# Altium integrated library Lattice FPGA MachXO2.IntLib: 444 symbols (part 29 of 39)
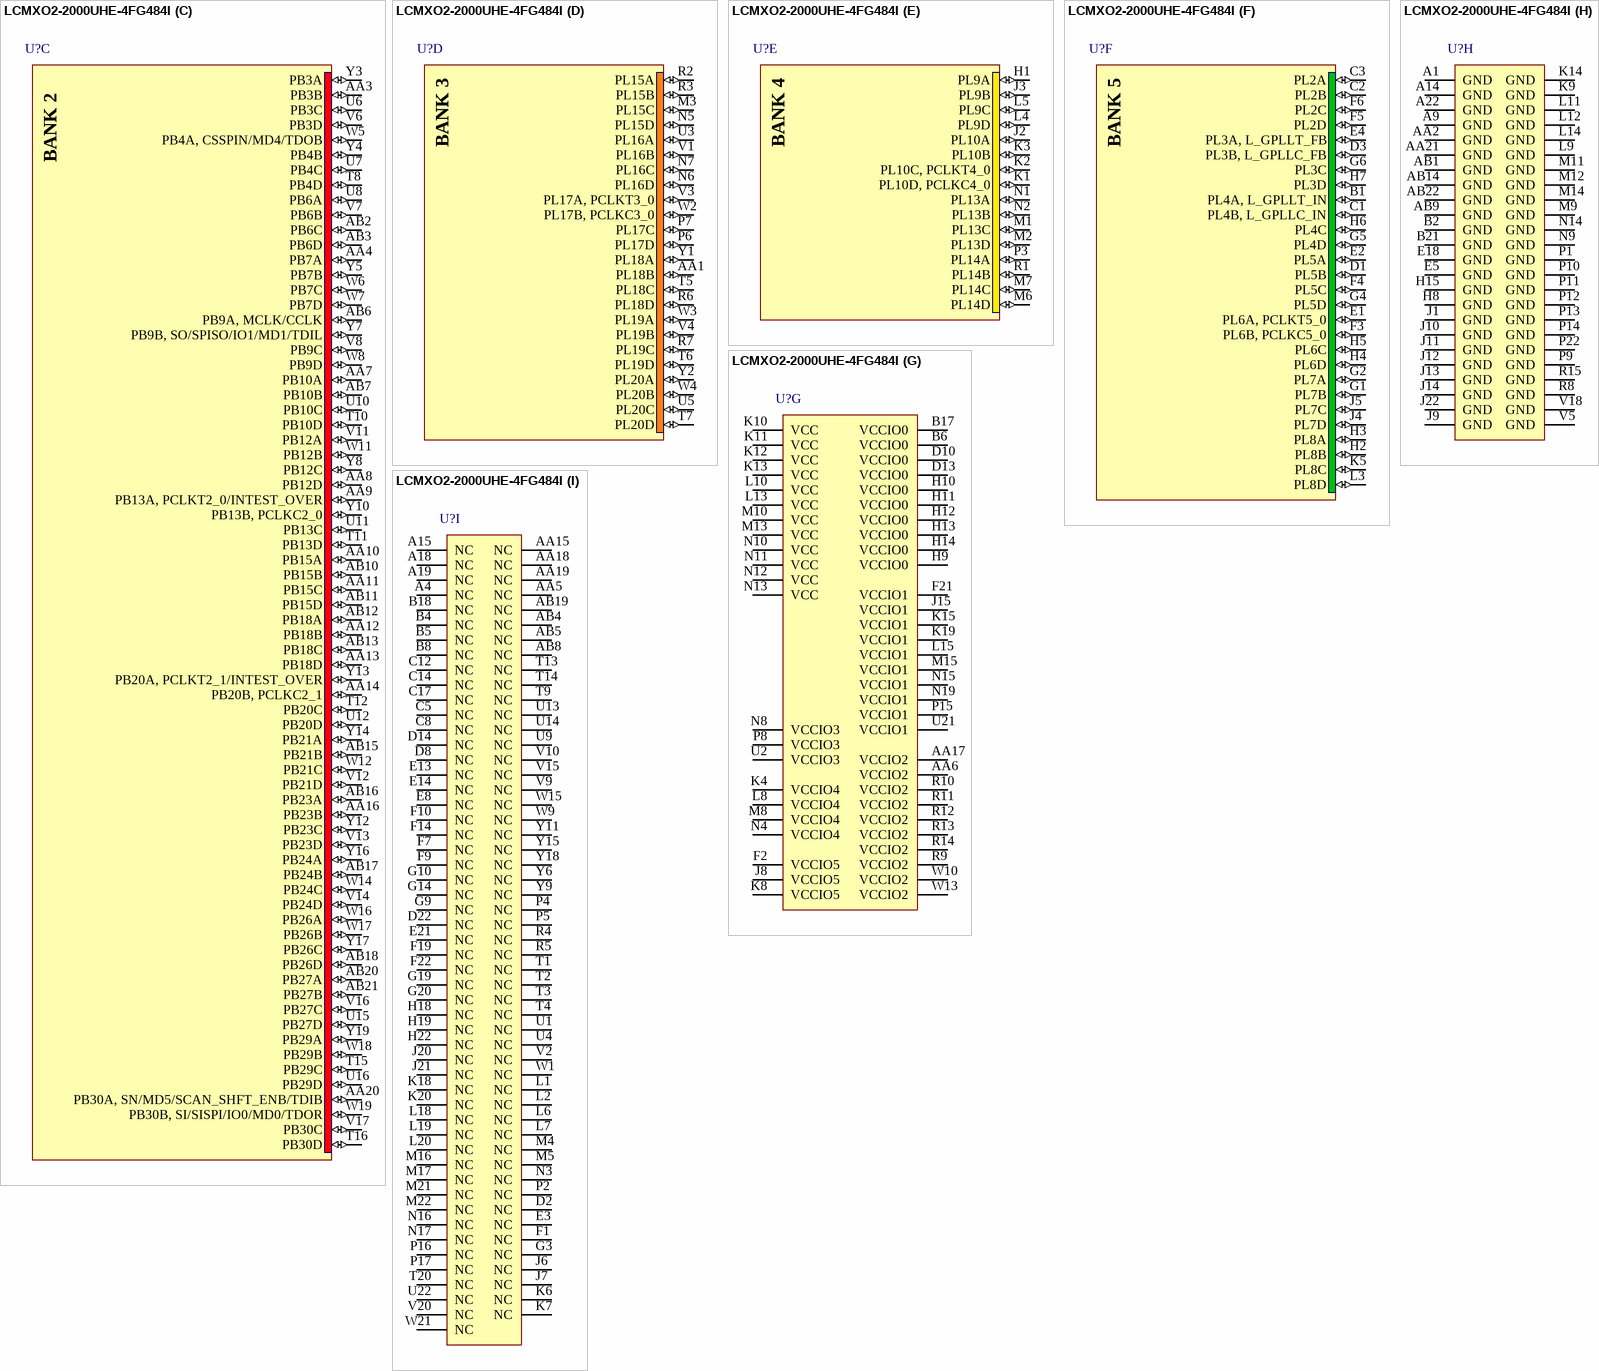
[diagram p338: symbol LCMXO2-2000UHE-4FG484I]

## LCMXO2-2000UHE-4FG484I
designator U?
MachXO2 High Performance CPLD with 2112 LUTs, Voltage Regulator, 2.5V/3.3V, 484-pin fpBGA, Speed Grade-4, Industrial Grade, Halogen Free (RoHS); DatasheetVersion: ver01.5, Aug-2011; PackageVersion: ver02.8, Jul-2011; PackageReference: fpBGA484; PackageDescription: 484-Ball Fine Pitch Ball Grid Array (fpBGA484); Code_IPC: BGA100P22X22-484; ComponentLink1Description: Manufacturer URL; ComponentLink1URL: http://www.latticesemi.com/; ComponentLink2Description: Datasheet; ComponentLink2URL: http://www.latticesemi.com/documents/DS1035.pdf; ComponentLink3Description: Package Specification; ComponentLink3URL: http://www.latticesemi.com/lit/docs/package/pkg.pdf
footprint fpBGA484 (BGA, 484-Leads, Body 23x23mm, Pitch 1mm)
part A pins: A2 PT11A (io), A3 PT11B (io), A5 PT12C (io), A6 PT13C, TDO (io), A7 PT14B (io), A8 PT15C, TCK/TEST_CLK (io), A10 PT19D (io), A11 PT19B (io), A12 PT20A (io), A13 PT20C, SCL/IO2/MD2/ATB_SENSE/PCLKT0_0 (io), A16 PT23C, JTAGENB/MD6/TDIR (io), A17 PT24B (io), A20 PT26C (io), A21 PT26D (io), B3 PT9B (io), B7 PT14A (io), B9 PT18A, PCLKT0_1 (io), B10 PT19C (io), B11 PT19A (io), B12 PT20B (io), B13 PT20D, SDA/IO3/MD3/ATB_FORCE/PCLKC0_0/TDOT (io), B14 PT21B (io), B15 PT22C (io), B16 PT23D, PROGRAMN (io), B19 PT25B (io), B20 PT28C, INITN (io), C4 PT10B (io), C6 PT12D (io), C7 PT13D, TDI/MD7 (io), C9 PT15D, TMS (io), C10 PT18B, PCLKC0_1 (io), C11 PT14D (io), C13 PT21A (io), C15 PT22D (io), C16 PT24A (io), C18 PT25A (io), C19 PT27A (io), C20 PT28D, DONE (io), D4 PT9A (io), D5 PT10A (io), D6 PT12A (io), D7 PT12B (io), D9 PT13B (io), D11 PT15B (io), D12 PT22A (io), D15 PT24C (io), D16 PT25C (io), D17 PT25D (io), D18 PT27B (io), E6 PT9D (io), E7 PT11D (io), E9 PT13A (io), E10 PT14C (io), E11 PT15A (io), E12 PT22B (io), E15 PT24D (io), E16 PT26A (io), E17 PT28A (io), F8 PT11C (io), F11 PT18C (io), F12 PT21D (io), F13 PT23B (io), F15 PT26B (io), F16 PT27D (io), F17 PT28B (io), G7 PT9C (io), G8 PT10D (io), G11 PT18D (io), G12 PT21C (io), G13 PT23A (io), G15 PT27C (io)
part B pins: AA22 PR18B (DQ1) (io), B22 PR4A (io), C21 PR2B, R_GPLLC_FB (DQ0) (io), C22 PR4B (io), D19 PR2A, R_GPLLT_FB (DQ0) (io), D20 PR3B, R_GPLLC_IN (DQ0) (io), D21 PR5A (DQ0) (io), E19 PR3A, R_GPLLT_IN (DQ0) (io), E20 PR5B (DQ0) (io), E22 PR6A (DQ0) (io), F18 PR2D (io), F20 PR6B (DQ0) (io), G16 PR2C (io), G17 PR3C (io), G18 PR4D (io), G21 PR7A (io), G22 PR7B (io), H16 PR3D (io), H17 PR4C (io), H20 PR8A (DQ0) (io), H21 PR8B (DQ0) (io), J16 PR5D (io), J17 PR5C (io), J18 PR6C (io), J19 PR6D (io), K16 PR7D (io), K17 PR7C (io), K21 PR9A (DQS0) (io), K22 PR9B (DQS0N) (io), L16 PR8D (io), L17 PR8C (io), L21 PR9C (io), L22 PR9D (io), M18 PR13D (io), M19 PR13C (io), M20 PR14C (io), N18 PR14D (io), N20 PR10C (io), N21 PR10B, PCLKC1_0 (DQ0) (io), N22 PR10A, PCLKT1_0 (DQ0) (io), P18 PR15D (DQ1) (io), P19 PR15C (DQ1) (io), P20 PR13A (DQS1) (io), P21 PR10D (io), R16 PR19C (io), R17 PR18D (io), R18 PR16D (io), R19 PR16C (io), R20 PR14B (DQ1) (io), R21 PR14A (DQ1) (io), R22 PR13B (DQS1N) (io), T17 PR19D (io), T18 PR18C (io), T19 PR17C (io), T21 PR15B (DQ1) (io), T22 PR15A (DQ1) (io), U17 PR20D (io), U18 PR20C (io), U19 PR17D (io), U20 PR16A (DQ1) (io), V19 PR19B (DQ1) (io), V21 PR17B (io), V22 PR16B (DQ1) (io), W20 PR19A (DQ1) (io), W22 PR17A (io), Y20 PR20B (io), Y21 PR20A (io), Y22 PR18A (DQ1) (io)
part C pins: AA3 PB3B (io), AA4 PB7A (io), AA7 PB10A (io), AA8 PB12D (io), AA9 PB13A, PCLKT2_0/INTEST_OVER (io), AA10 PB15A (io), AA11 PB15C (io), AA12 PB18B (io), AA13 PB18D (io), AA14 PB20B, PCLKC2_1 (io), AA16 PB23B (io), AA20 PB30A, SN/MD5/SCAN_SHFT_ENB/TDIB (io), AB2 PB6C (io), AB3 PB6D (io), AB6 PB9A, MCLK/CCLK (io), AB7 PB10B (io), AB10 PB15B (io), AB11 PB15D (io), AB12 PB18A (io), AB13 PB18C (io), AB15 PB21B (io), AB16 PB23A (io), AB17 PB24B (io), AB18 PB26D (io), AB20 PB27A (io), AB21 PB27B (io), T8 PB4D (io), T10 PB10D (io), T11 PB13D (io), T12 PB20C (io), T15 PB29C (io), T16 PB30D (io), U6 PB3C (io), U7 PB4C (io), U8 PB6A (io), U10 PB10C (io), U11 PB13C (io), U12 PB20D (io), U15 PB27D (io), U16 PB29D (io), V6 PB3D (io), V7 PB6B (io), V8 PB9C (io), V11 PB12A (io), V12 PB21D (io), V13 PB23D (io), V14 PB24D (io), V16 PB27C (io), V17 PB30C (io), W5 PB4A, CSSPIN/MD4/TDOB (io), W6 PB7C (io), W7 PB7D (io), W8 PB9D (io), W11 PB12B (io), W12 PB21C (io), W14 PB24C (io), W16 PB26A (io), W17 PB26B (io), W18 PB29B (io), W19 PB30B, SI/SISPI/IO0/MD0/TDOR (io), Y3 PB3A (io), Y4 PB4B (io), Y5 PB7B (io), Y7 PB9B, SO/SPISO/IO1/MD1/TDIL (io), Y8 PB12C (io), Y10 PB13B, PCLKC2_0 (io), Y12 PB23C (io), Y13 PB20A, PCLKT2_1/INTEST_OVER (io), Y14 PB21A (io), Y16 PB24A (io), Y17 PB26C (io), Y19 PB29A (io)
part D pins: AA1 PL18B (io), M3 PL15C (io), N5 PL15D (io), N6 PL16D (io), N7 PL16C (io), P6 PL17D (io), P7 PL17C (io), R2 PL15A (io), R3 PL15B (io), R6 PL18D (io), R7 PL19C (io), T5 PL18C (io), T6 PL19D (io), T7 PL20D (io), U3 PL16A (io), U5 PL20C (io), V1 PL16B (io), V3 PL17A, PCLKT3_0 (io), V4 PL19B (io), W2 PL17B, PCLKC3_0 (io), W3 PL19A (io), W4 PL20B (io), Y1 PL18A (io), Y2 PL20A (io)
part E pins: H1 PL9A (io), J2 PL10A (io), J3 PL9B (io), K1 PL10D, PCLKC4_0 (io), K2 PL10C, PCLKT4_0 (io), K3 PL10B (io), L4 PL9D (io), L5 PL9C (io), M1 PL13C (io), M2 PL13D (io), M6 PL14D (io), M7 PL14C (io), N1 PL13A (io), N2 PL13B (io), P3 PL14A (io), R1 PL14B (io)
part F pins: B1 PL4A, L_GPLLT_IN (io), C1 PL4B, L_GPLLC_IN (io), C2 PL2B (io), C3 PL2A (io), D1 PL5B (io), D3 PL3B, L_GPLLC_FB (io), E1 PL6A, PCLKT5_0 (io), E2 PL5A (io), E4 PL3A, L_GPLLT_FB (io), F3 PL6B, PCLKC5_0 (io), F4 PL5C (io), F5 PL2D (io), F6 PL2C (io), G1 PL7B (io), G2 PL7A (io), G4 PL5D (io), G5 PL4D (io), G6 PL3C (io), H2 PL8B (io), H3 PL8A (io), H4 PL6D (io), H5 PL6C (io), H6 PL4C (io), H7 PL3D (io), J4 PL7D (io), J5 PL7C (io), K5 PL8C (io), L3 PL8D (io)
part G pins: AA6 VCCIO2 (power), AA17 VCCIO2 (power), B6 VCCIO0 (power), B17 VCCIO0 (power), D10 VCCIO0 (power), D13 VCCIO0 (power), F2 VCCIO5 (power), F21 VCCIO1 (power), H9 VCCIO0 (power), H10 VCCIO0 (power), H11 VCCIO0 (power), H12 VCCIO0 (power), H13 VCCIO0 (power), H14 VCCIO0 (power), J8 VCCIO5 (power), J15 VCCIO1 (power), K4 VCCIO4 (power), K8 VCCIO5 (power), K10 VCC (power), K11 VCC (power), K12 VCC (power), K13 VCC (power), K15 VCCIO1 (power), K19 VCCIO1 (power), L8 VCCIO4 (power), L10 VCC (power), L13 VCC (power), L15 VCCIO1 (power), M8 VCCIO4 (power), M10 VCC (power), M13 VCC (power), M15 VCCIO1 (power), N4 VCCIO4 (power), N8 VCCIO3 (power), N10 VCC (power), N11 VCC (power), N12 VCC (power), N13 VCC (power), N15 VCCIO1 (power), N19 VCCIO1 (power), P8 VCCIO3 (power), P15 VCCIO1 (power), R9 VCCIO2 (power), R10 VCCIO2 (power), R11 VCCIO2 (power), R12 VCCIO2 (power), R13 VCCIO2 (power), R14 VCCIO2 (power), U2 VCCIO3 (power), U21 VCCIO1 (power), W10 VCCIO2 (power), W13 VCCIO2 (power)
part H pins: A1 GND (power), A9 GND (power), A14 GND (power), A22 GND (power), AA2 GND (power), AA21 GND (power), AB1 GND (power), AB9 GND (power), AB14 GND (power), AB22 GND (power), B2 GND (power), B21 GND (power), E5 GND (power), E18 GND (power), H8 GND (power), H15 GND (power), J1 GND (power), J9 GND (power), J10 GND (power), J11 GND (power), J12 GND (power), J13 GND (power), J14 GND (power), J22 GND (power), K9 GND (power), K14 GND (power), L9 GND (power), L11 GND (power), L12 GND (power), L14 GND (power), M9 GND (power), M11 GND (power), M12 GND (power), M14 GND (power), N9 GND (power), N14 GND (power), P1 GND (power), P9 GND (power), P10 GND (power), P11 GND (power), P12 GND (power), P13 GND (power), P14 GND (power), P22 GND (power), R8 GND (power), R15 GND (power), V5 GND (power), V18 GND (power)
part I pins: A4 NC, A15 NC, A18 NC, A19 NC, AA5 NC, AA15 NC, AA18 NC, AA19 NC, AB4 NC, AB5 NC, AB8 NC, AB19 NC, B4 NC, B5 NC, B8 NC, B18 NC, C5 NC, C8 NC, C12 NC, C14 NC, C17 NC, D2 NC, D8 NC, D14 NC, D22 NC, E3 NC, E8 NC, E13 NC, E14 NC, E21 NC, F1 NC, F7 NC, F9 NC, F10 NC, F14 NC, F19 NC, F22 NC, G3 NC, G9 NC, G10 NC, G14 NC, G19 NC, G20 NC, H18 NC, H19 NC, H22 NC, J6 NC, J7 NC, J20 NC, J21 NC, K6 NC, K7 NC, K18 NC, K20 NC, L1 NC, L2 NC, L6 NC, L7 NC, L18 NC, L19 NC, L20 NC, M4 NC, M5 NC, M16 NC, M17 NC, M21 NC, M22 NC, N3 NC, N16 NC, N17 NC, P2 NC, P4 NC, P5 NC, P16 NC, P17 NC, R4 NC, R5 NC, T1 NC, T2 NC, T3 NC, T4 NC, T9 NC, T13 NC, T14 NC, T20 NC, U1 NC, U4 NC, U9 NC, U13 NC, U14 NC, U22 NC, V2 NC, V9 NC, V10 NC, V15 NC, V20 NC, W1 NC, W9 NC, W15 NC, W21 NC, Y6 NC, Y9 NC, Y11 NC, Y15 NC, Y18 NC
part A text: BANK 0
part B text: BANK 1
part C text: BANK 2
part D text: BANK 3
part E text: BANK 4
part F text: BANK 5

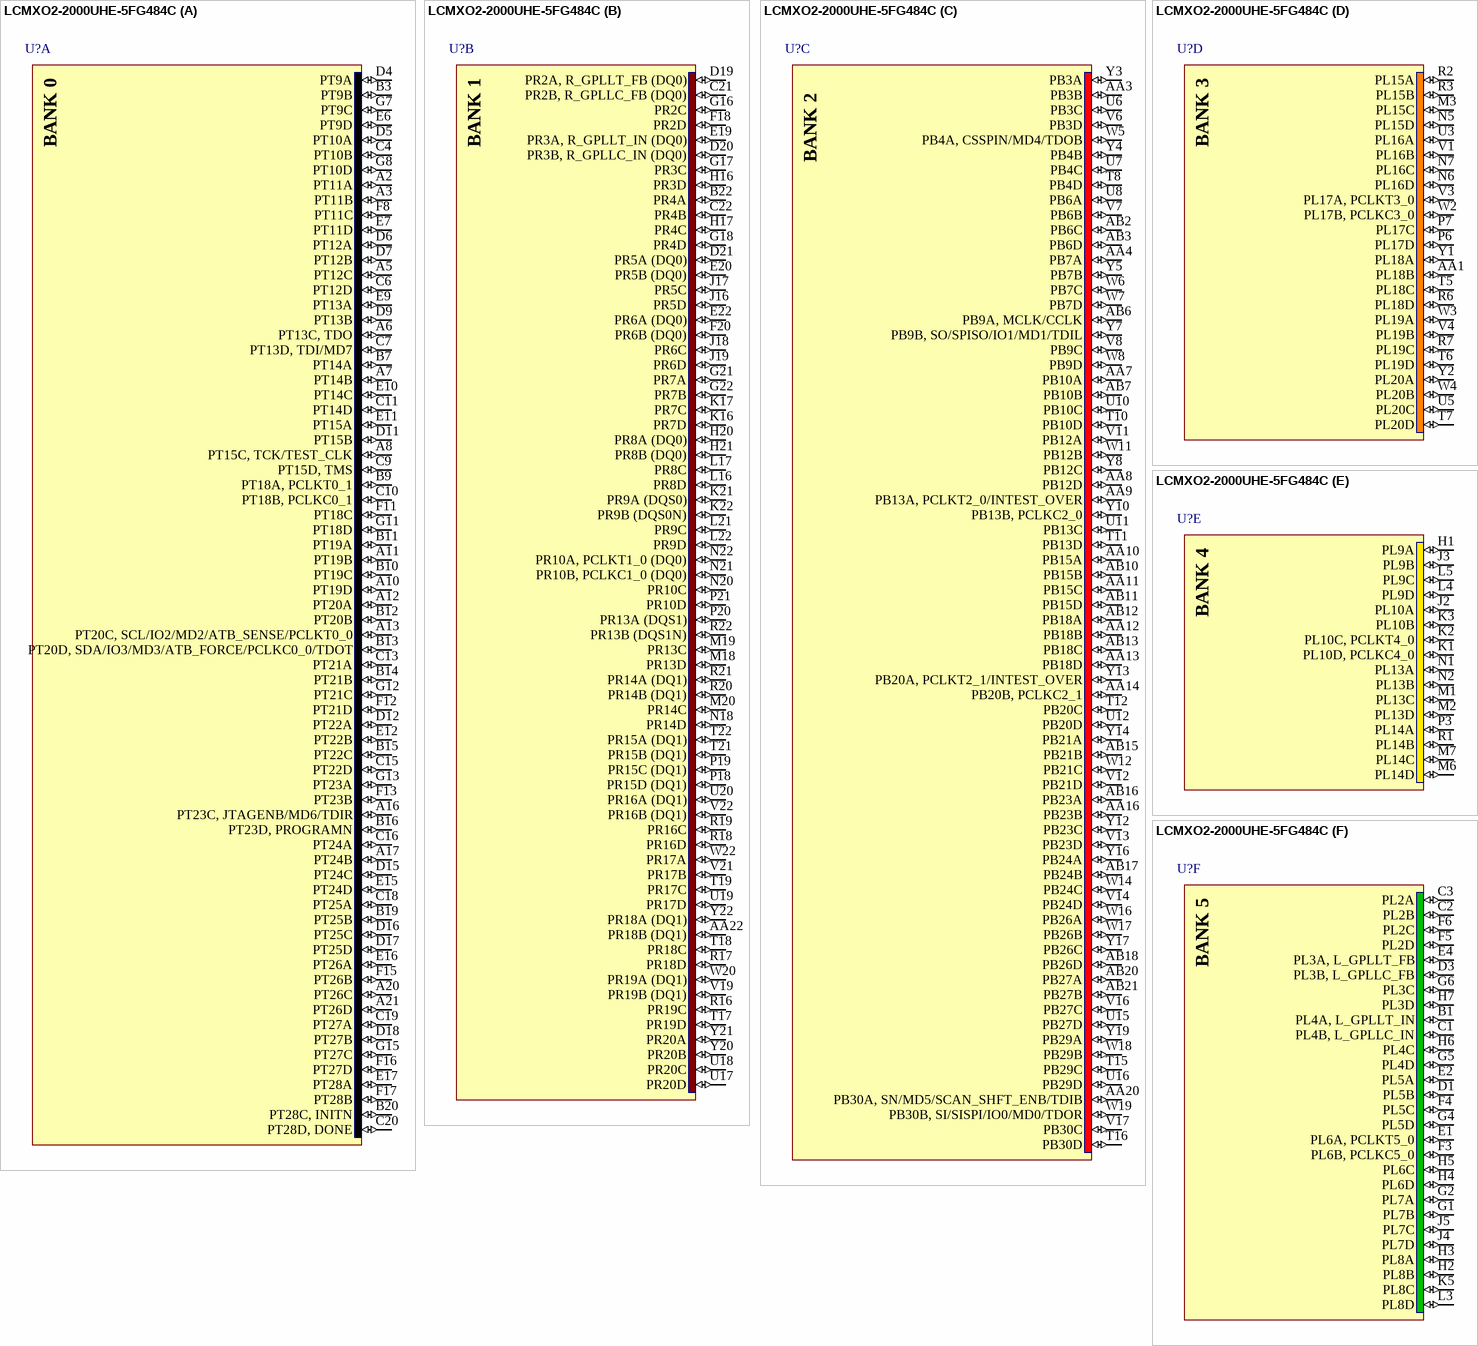
[diagram p111: symbol LCMXO2-2000UHE-5FG484C]

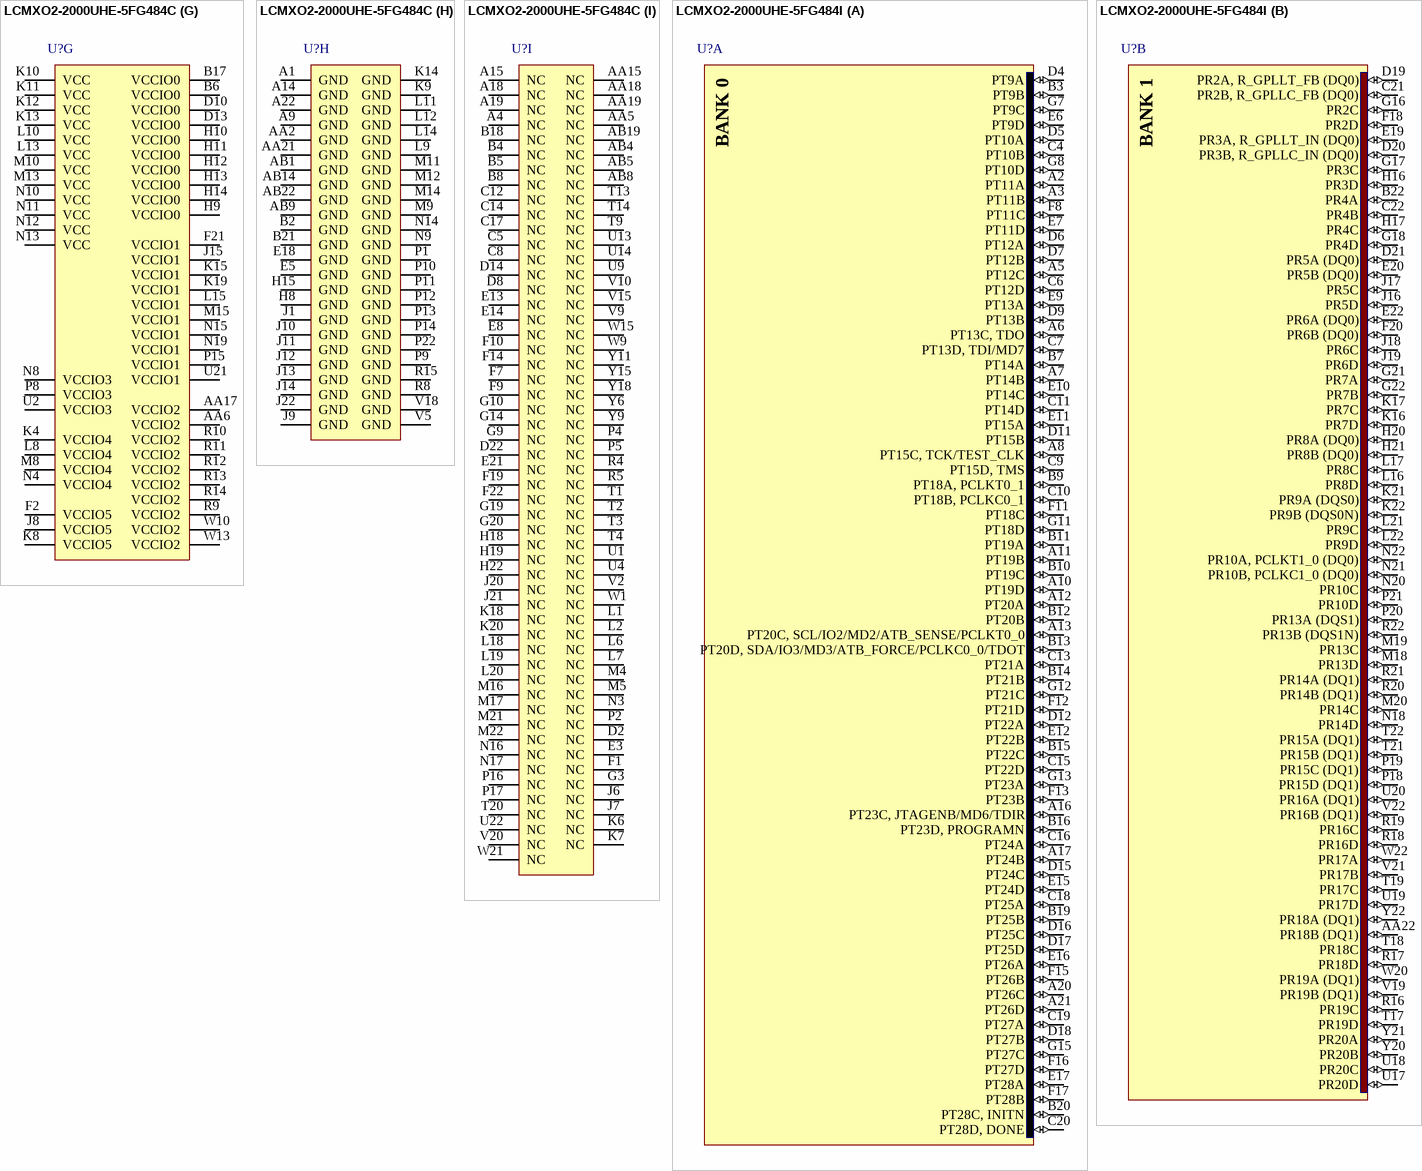
[diagram p112: symbols LCMXO2-2000UHE-5FG484C to LCMXO2-2000UHE-5FG484I]

## LCMXO2-2000UHE-5FG484C
designator U?
MachXO2 High Performance CPLD with 2112 LUTs, Voltage Regulator, 2.5V/3.3V, 484-pin fpBGA, Speed Grade-5, Commercial Grade, Halogen Free (RoHS); DatasheetVersion: ver01.5, Aug-2011; PackageVersion: ver02.8, Jul-2011; PackageReference: fpBGA484; PackageDescription: 484-Ball Fine Pitch Ball Grid Array (fpBGA484); Code_IPC: BGA100P22X22-484; ComponentLink1Description: Manufacturer URL; ComponentLink1URL: http://www.latticesemi.com/; ComponentLink2Description: Datasheet; ComponentLink2URL: http://www.latticesemi.com/documents/DS1035.pdf; ComponentLink3Description: Package Specification; ComponentLink3URL: http://www.latticesemi.com/lit/docs/package/pkg.pdf
footprint fpBGA484 (BGA, 484-Leads, Body 23x23mm, Pitch 1mm)
part A pins: A2 PT11A (io), A3 PT11B (io), A5 PT12C (io), A6 PT13C, TDO (io), A7 PT14B (io), A8 PT15C, TCK/TEST_CLK (io), A10 PT19D (io), A11 PT19B (io), A12 PT20A (io), A13 PT20C, SCL/IO2/MD2/ATB_SENSE/PCLKT0_0 (io), A16 PT23C, JTAGENB/MD6/TDIR (io), A17 PT24B (io), A20 PT26C (io), A21 PT26D (io), B3 PT9B (io), B7 PT14A (io), B9 PT18A, PCLKT0_1 (io), B10 PT19C (io), B11 PT19A (io), B12 PT20B (io), B13 PT20D, SDA/IO3/MD3/ATB_FORCE/PCLKC0_0/TDOT (io), B14 PT21B (io), B15 PT22C (io), B16 PT23D, PROGRAMN (io), B19 PT25B (io), B20 PT28C, INITN (io), C4 PT10B (io), C6 PT12D (io), C7 PT13D, TDI/MD7 (io), C9 PT15D, TMS (io), C10 PT18B, PCLKC0_1 (io), C11 PT14D (io), C13 PT21A (io), C15 PT22D (io), C16 PT24A (io), C18 PT25A (io), C19 PT27A (io), C20 PT28D, DONE (io), D4 PT9A (io), D5 PT10A (io), D6 PT12A (io), D7 PT12B (io), D9 PT13B (io), D11 PT15B (io), D12 PT22A (io), D15 PT24C (io), D16 PT25C (io), D17 PT25D (io), D18 PT27B (io), E6 PT9D (io), E7 PT11D (io), E9 PT13A (io), E10 PT14C (io), E11 PT15A (io), E12 PT22B (io), E15 PT24D (io), E16 PT26A (io), E17 PT28A (io), F8 PT11C (io), F11 PT18C (io), F12 PT21D (io), F13 PT23B (io), F15 PT26B (io), F16 PT27D (io), F17 PT28B (io), G7 PT9C (io), G8 PT10D (io), G11 PT18D (io), G12 PT21C (io), G13 PT23A (io), G15 PT27C (io)
part B pins: AA22 PR18B (DQ1) (io), B22 PR4A (io), C21 PR2B, R_GPLLC_FB (DQ0) (io), C22 PR4B (io), D19 PR2A, R_GPLLT_FB (DQ0) (io), D20 PR3B, R_GPLLC_IN (DQ0) (io), D21 PR5A (DQ0) (io), E19 PR3A, R_GPLLT_IN (DQ0) (io), E20 PR5B (DQ0) (io), E22 PR6A (DQ0) (io), F18 PR2D (io), F20 PR6B (DQ0) (io), G16 PR2C (io), G17 PR3C (io), G18 PR4D (io), G21 PR7A (io), G22 PR7B (io), H16 PR3D (io), H17 PR4C (io), H20 PR8A (DQ0) (io), H21 PR8B (DQ0) (io), J16 PR5D (io), J17 PR5C (io), J18 PR6C (io), J19 PR6D (io), K16 PR7D (io), K17 PR7C (io), K21 PR9A (DQS0) (io), K22 PR9B (DQS0N) (io), L16 PR8D (io), L17 PR8C (io), L21 PR9C (io), L22 PR9D (io), M18 PR13D (io), M19 PR13C (io), M20 PR14C (io), N18 PR14D (io), N20 PR10C (io), N21 PR10B, PCLKC1_0 (DQ0) (io), N22 PR10A, PCLKT1_0 (DQ0) (io), P18 PR15D (DQ1) (io), P19 PR15C (DQ1) (io), P20 PR13A (DQS1) (io), P21 PR10D (io), R16 PR19C (io), R17 PR18D (io), R18 PR16D (io), R19 PR16C (io), R20 PR14B (DQ1) (io), R21 PR14A (DQ1) (io), R22 PR13B (DQS1N) (io), T17 PR19D (io), T18 PR18C (io), T19 PR17C (io), T21 PR15B (DQ1) (io), T22 PR15A (DQ1) (io), U17 PR20D (io), U18 PR20C (io), U19 PR17D (io), U20 PR16A (DQ1) (io), V19 PR19B (DQ1) (io), V21 PR17B (io), V22 PR16B (DQ1) (io), W20 PR19A (DQ1) (io), W22 PR17A (io), Y20 PR20B (io), Y21 PR20A (io), Y22 PR18A (DQ1) (io)
part C pins: AA3 PB3B (io), AA4 PB7A (io), AA7 PB10A (io), AA8 PB12D (io), AA9 PB13A, PCLKT2_0/INTEST_OVER (io), AA10 PB15A (io), AA11 PB15C (io), AA12 PB18B (io), AA13 PB18D (io), AA14 PB20B, PCLKC2_1 (io), AA16 PB23B (io), AA20 PB30A, SN/MD5/SCAN_SHFT_ENB/TDIB (io), AB2 PB6C (io), AB3 PB6D (io), AB6 PB9A, MCLK/CCLK (io), AB7 PB10B (io), AB10 PB15B (io), AB11 PB15D (io), AB12 PB18A (io), AB13 PB18C (io), AB15 PB21B (io), AB16 PB23A (io), AB17 PB24B (io), AB18 PB26D (io), AB20 PB27A (io), AB21 PB27B (io), T8 PB4D (io), T10 PB10D (io), T11 PB13D (io), T12 PB20C (io), T15 PB29C (io), T16 PB30D (io), U6 PB3C (io), U7 PB4C (io), U8 PB6A (io), U10 PB10C (io), U11 PB13C (io), U12 PB20D (io), U15 PB27D (io), U16 PB29D (io), V6 PB3D (io), V7 PB6B (io), V8 PB9C (io), V11 PB12A (io), V12 PB21D (io), V13 PB23D (io), V14 PB24D (io), V16 PB27C (io), V17 PB30C (io), W5 PB4A, CSSPIN/MD4/TDOB (io), W6 PB7C (io), W7 PB7D (io), W8 PB9D (io), W11 PB12B (io), W12 PB21C (io), W14 PB24C (io), W16 PB26A (io), W17 PB26B (io), W18 PB29B (io), W19 PB30B, SI/SISPI/IO0/MD0/TDOR (io), Y3 PB3A (io), Y4 PB4B (io), Y5 PB7B (io), Y7 PB9B, SO/SPISO/IO1/MD1/TDIL (io), Y8 PB12C (io), Y10 PB13B, PCLKC2_0 (io), Y12 PB23C (io), Y13 PB20A, PCLKT2_1/INTEST_OVER (io), Y14 PB21A (io), Y16 PB24A (io), Y17 PB26C (io), Y19 PB29A (io)
part D pins: AA1 PL18B (io), M3 PL15C (io), N5 PL15D (io), N6 PL16D (io), N7 PL16C (io), P6 PL17D (io), P7 PL17C (io), R2 PL15A (io), R3 PL15B (io), R6 PL18D (io), R7 PL19C (io), T5 PL18C (io), T6 PL19D (io), T7 PL20D (io), U3 PL16A (io), U5 PL20C (io), V1 PL16B (io), V3 PL17A, PCLKT3_0 (io), V4 PL19B (io), W2 PL17B, PCLKC3_0 (io), W3 PL19A (io), W4 PL20B (io), Y1 PL18A (io), Y2 PL20A (io)
part E pins: H1 PL9A (io), J2 PL10A (io), J3 PL9B (io), K1 PL10D, PCLKC4_0 (io), K2 PL10C, PCLKT4_0 (io), K3 PL10B (io), L4 PL9D (io), L5 PL9C (io), M1 PL13C (io), M2 PL13D (io), M6 PL14D (io), M7 PL14C (io), N1 PL13A (io), N2 PL13B (io), P3 PL14A (io), R1 PL14B (io)
part F pins: B1 PL4A, L_GPLLT_IN (io), C1 PL4B, L_GPLLC_IN (io), C2 PL2B (io), C3 PL2A (io), D1 PL5B (io), D3 PL3B, L_GPLLC_FB (io), E1 PL6A, PCLKT5_0 (io), E2 PL5A (io), E4 PL3A, L_GPLLT_FB (io), F3 PL6B, PCLKC5_0 (io), F4 PL5C (io), F5 PL2D (io), F6 PL2C (io), G1 PL7B (io), G2 PL7A (io), G4 PL5D (io), G5 PL4D (io), G6 PL3C (io), H2 PL8B (io), H3 PL8A (io), H4 PL6D (io), H5 PL6C (io), H6 PL4C (io), H7 PL3D (io), J4 PL7D (io), J5 PL7C (io), K5 PL8C (io), L3 PL8D (io)
part G pins: AA6 VCCIO2 (power), AA17 VCCIO2 (power), B6 VCCIO0 (power), B17 VCCIO0 (power), D10 VCCIO0 (power), D13 VCCIO0 (power), F2 VCCIO5 (power), F21 VCCIO1 (power), H9 VCCIO0 (power), H10 VCCIO0 (power), H11 VCCIO0 (power), H12 VCCIO0 (power), H13 VCCIO0 (power), H14 VCCIO0 (power), J8 VCCIO5 (power), J15 VCCIO1 (power), K4 VCCIO4 (power), K8 VCCIO5 (power), K10 VCC (power), K11 VCC (power), K12 VCC (power), K13 VCC (power), K15 VCCIO1 (power), K19 VCCIO1 (power), L8 VCCIO4 (power), L10 VCC (power), L13 VCC (power), L15 VCCIO1 (power), M8 VCCIO4 (power), M10 VCC (power), M13 VCC (power), M15 VCCIO1 (power), N4 VCCIO4 (power), N8 VCCIO3 (power), N10 VCC (power), N11 VCC (power), N12 VCC (power), N13 VCC (power), N15 VCCIO1 (power), N19 VCCIO1 (power), P8 VCCIO3 (power), P15 VCCIO1 (power), R9 VCCIO2 (power), R10 VCCIO2 (power), R11 VCCIO2 (power), R12 VCCIO2 (power), R13 VCCIO2 (power), R14 VCCIO2 (power), U2 VCCIO3 (power), U21 VCCIO1 (power), W10 VCCIO2 (power), W13 VCCIO2 (power)
part H pins: A1 GND (power), A9 GND (power), A14 GND (power), A22 GND (power), AA2 GND (power), AA21 GND (power), AB1 GND (power), AB9 GND (power), AB14 GND (power), AB22 GND (power), B2 GND (power), B21 GND (power), E5 GND (power), E18 GND (power), H8 GND (power), H15 GND (power), J1 GND (power), J9 GND (power), J10 GND (power), J11 GND (power), J12 GND (power), J13 GND (power), J14 GND (power), J22 GND (power), K9 GND (power), K14 GND (power), L9 GND (power), L11 GND (power), L12 GND (power), L14 GND (power), M9 GND (power), M11 GND (power), M12 GND (power), M14 GND (power), N9 GND (power), N14 GND (power), P1 GND (power), P9 GND (power), P10 GND (power), P11 GND (power), P12 GND (power), P13 GND (power), P14 GND (power), P22 GND (power), R8 GND (power), R15 GND (power), V5 GND (power), V18 GND (power)
part I pins: A4 NC, A15 NC, A18 NC, A19 NC, AA5 NC, AA15 NC, AA18 NC, AA19 NC, AB4 NC, AB5 NC, AB8 NC, AB19 NC, B4 NC, B5 NC, B8 NC, B18 NC, C5 NC, C8 NC, C12 NC, C14 NC, C17 NC, D2 NC, D8 NC, D14 NC, D22 NC, E3 NC, E8 NC, E13 NC, E14 NC, E21 NC, F1 NC, F7 NC, F9 NC, F10 NC, F14 NC, F19 NC, F22 NC, G3 NC, G9 NC, G10 NC, G14 NC, G19 NC, G20 NC, H18 NC, H19 NC, H22 NC, J6 NC, J7 NC, J20 NC, J21 NC, K6 NC, K7 NC, K18 NC, K20 NC, L1 NC, L2 NC, L6 NC, L7 NC, L18 NC, L19 NC, L20 NC, M4 NC, M5 NC, M16 NC, M17 NC, M21 NC, M22 NC, N3 NC, N16 NC, N17 NC, P2 NC, P4 NC, P5 NC, P16 NC, P17 NC, R4 NC, R5 NC, T1 NC, T2 NC, T3 NC, T4 NC, T9 NC, T13 NC, T14 NC, T20 NC, U1 NC, U4 NC, U9 NC, U13 NC, U14 NC, U22 NC, V2 NC, V9 NC, V10 NC, V15 NC, V20 NC, W1 NC, W9 NC, W15 NC, W21 NC, Y6 NC, Y9 NC, Y11 NC, Y15 NC, Y18 NC
part A text: BANK 0
part B text: BANK 1
part C text: BANK 2
part D text: BANK 3
part E text: BANK 4
part F text: BANK 5

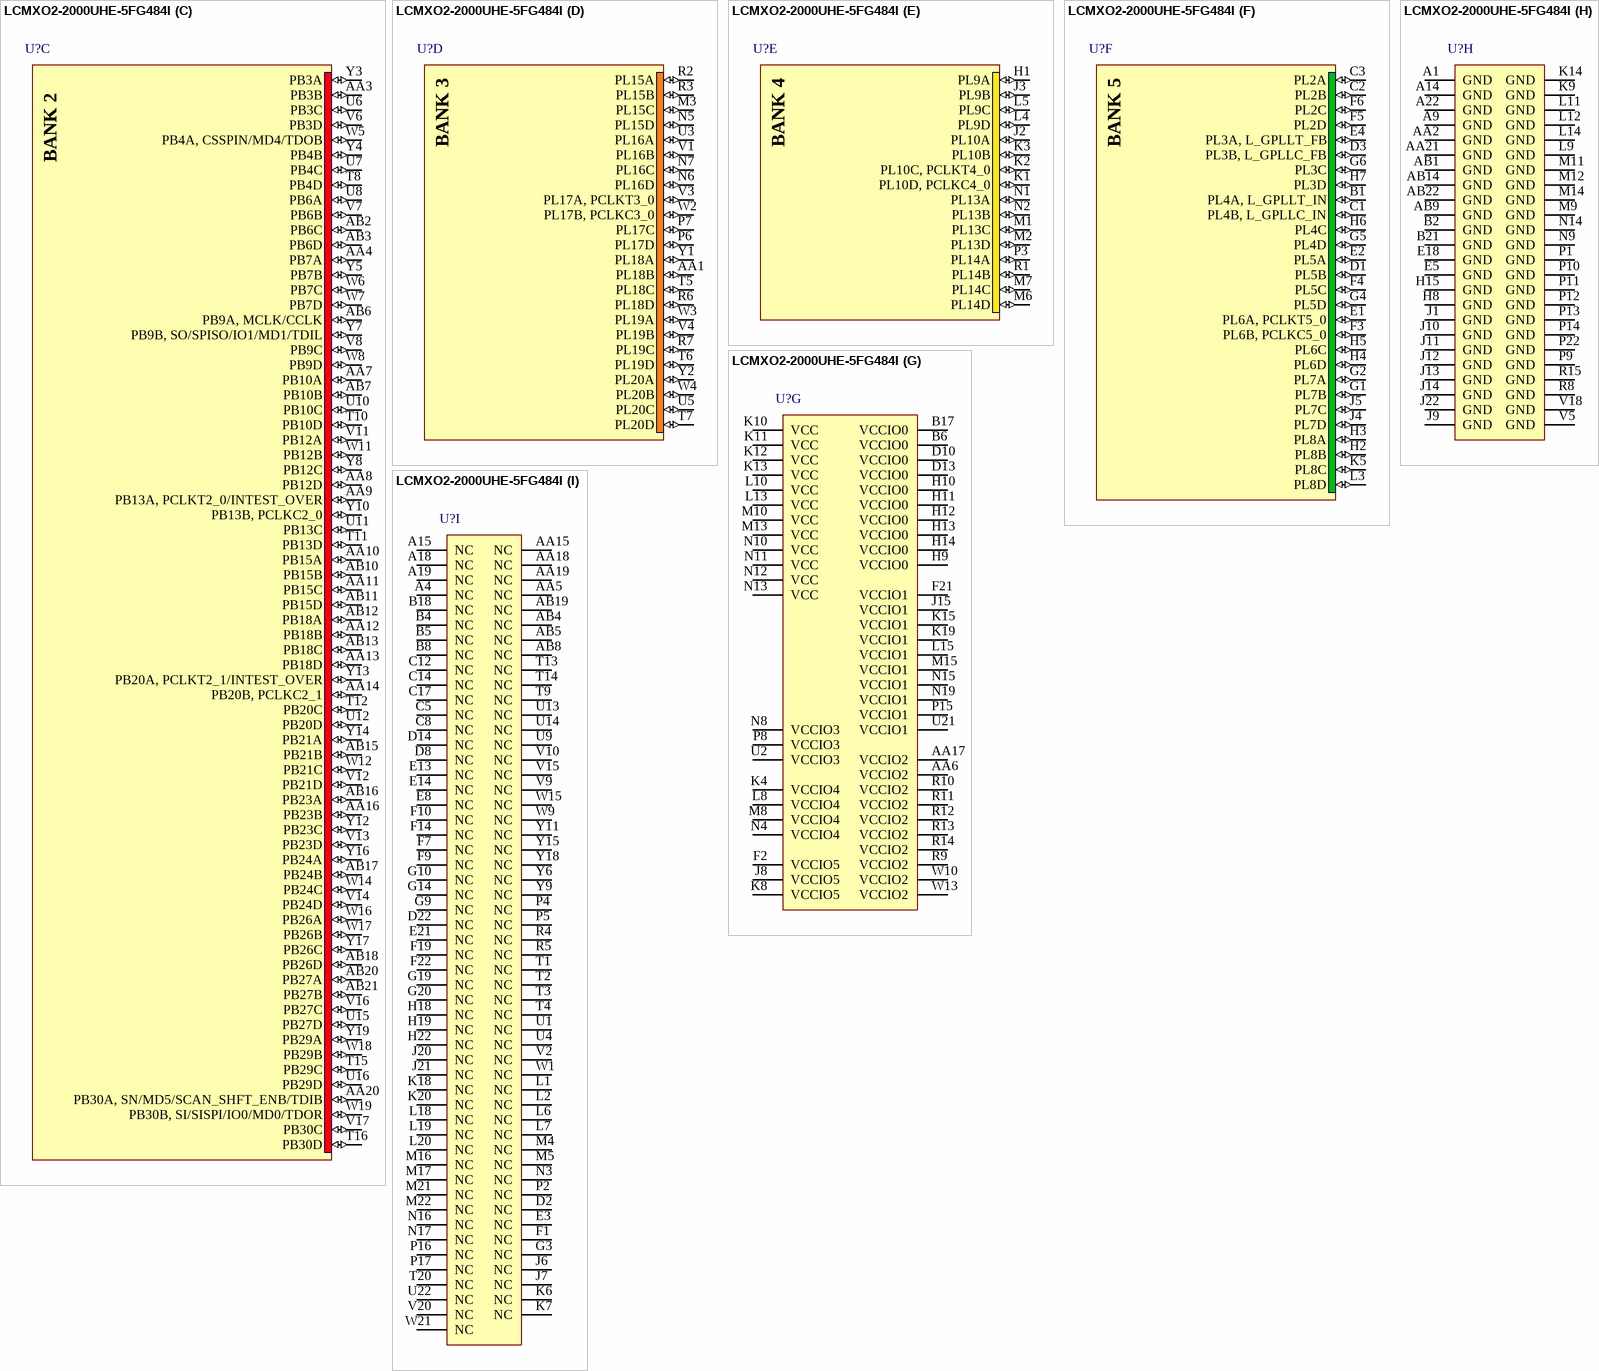
[diagram p113: symbol LCMXO2-2000UHE-5FG484I]

## LCMXO2-2000UHE-5FG484I
designator U?
MachXO2 High Performance CPLD with 2112 LUTs, Voltage Regulator, 2.5V/3.3V, 484-pin fpBGA, Speed Grade-5, Industrial Grade, Halogen Free (RoHS); DatasheetVersion: ver01.5, Aug-2011; PackageVersion: ver02.8, Jul-2011; PackageReference: fpBGA484; PackageDescription: 484-Ball Fine Pitch Ball Grid Array (fpBGA484); Code_IPC: BGA100P22X22-484; ComponentLink1Description: Manufacturer URL; ComponentLink1URL: http://www.latticesemi.com/; ComponentLink2Description: Datasheet; ComponentLink2URL: http://www.latticesemi.com/documents/DS1035.pdf; ComponentLink3Description: Package Specification; ComponentLink3URL: http://www.latticesemi.com/lit/docs/package/pkg.pdf
footprint fpBGA484 (BGA, 484-Leads, Body 23x23mm, Pitch 1mm)
part A pins: A2 PT11A (io), A3 PT11B (io), A5 PT12C (io), A6 PT13C, TDO (io), A7 PT14B (io), A8 PT15C, TCK/TEST_CLK (io), A10 PT19D (io), A11 PT19B (io), A12 PT20A (io), A13 PT20C, SCL/IO2/MD2/ATB_SENSE/PCLKT0_0 (io), A16 PT23C, JTAGENB/MD6/TDIR (io), A17 PT24B (io), A20 PT26C (io), A21 PT26D (io), B3 PT9B (io), B7 PT14A (io), B9 PT18A, PCLKT0_1 (io), B10 PT19C (io), B11 PT19A (io), B12 PT20B (io), B13 PT20D, SDA/IO3/MD3/ATB_FORCE/PCLKC0_0/TDOT (io), B14 PT21B (io), B15 PT22C (io), B16 PT23D, PROGRAMN (io), B19 PT25B (io), B20 PT28C, INITN (io), C4 PT10B (io), C6 PT12D (io), C7 PT13D, TDI/MD7 (io), C9 PT15D, TMS (io), C10 PT18B, PCLKC0_1 (io), C11 PT14D (io), C13 PT21A (io), C15 PT22D (io), C16 PT24A (io), C18 PT25A (io), C19 PT27A (io), C20 PT28D, DONE (io), D4 PT9A (io), D5 PT10A (io), D6 PT12A (io), D7 PT12B (io), D9 PT13B (io), D11 PT15B (io), D12 PT22A (io), D15 PT24C (io), D16 PT25C (io), D17 PT25D (io), D18 PT27B (io), E6 PT9D (io), E7 PT11D (io), E9 PT13A (io), E10 PT14C (io), E11 PT15A (io), E12 PT22B (io), E15 PT24D (io), E16 PT26A (io), E17 PT28A (io), F8 PT11C (io), F11 PT18C (io), F12 PT21D (io), F13 PT23B (io), F15 PT26B (io), F16 PT27D (io), F17 PT28B (io), G7 PT9C (io), G8 PT10D (io), G11 PT18D (io), G12 PT21C (io), G13 PT23A (io), G15 PT27C (io)
part B pins: AA22 PR18B (DQ1) (io), B22 PR4A (io), C21 PR2B, R_GPLLC_FB (DQ0) (io), C22 PR4B (io), D19 PR2A, R_GPLLT_FB (DQ0) (io), D20 PR3B, R_GPLLC_IN (DQ0) (io), D21 PR5A (DQ0) (io), E19 PR3A, R_GPLLT_IN (DQ0) (io), E20 PR5B (DQ0) (io), E22 PR6A (DQ0) (io), F18 PR2D (io), F20 PR6B (DQ0) (io), G16 PR2C (io), G17 PR3C (io), G18 PR4D (io), G21 PR7A (io), G22 PR7B (io), H16 PR3D (io), H17 PR4C (io), H20 PR8A (DQ0) (io), H21 PR8B (DQ0) (io), J16 PR5D (io), J17 PR5C (io), J18 PR6C (io), J19 PR6D (io), K16 PR7D (io), K17 PR7C (io), K21 PR9A (DQS0) (io), K22 PR9B (DQS0N) (io), L16 PR8D (io), L17 PR8C (io), L21 PR9C (io), L22 PR9D (io), M18 PR13D (io), M19 PR13C (io), M20 PR14C (io), N18 PR14D (io), N20 PR10C (io), N21 PR10B, PCLKC1_0 (DQ0) (io), N22 PR10A, PCLKT1_0 (DQ0) (io), P18 PR15D (DQ1) (io), P19 PR15C (DQ1) (io), P20 PR13A (DQS1) (io), P21 PR10D (io), R16 PR19C (io), R17 PR18D (io), R18 PR16D (io), R19 PR16C (io), R20 PR14B (DQ1) (io), R21 PR14A (DQ1) (io), R22 PR13B (DQS1N) (io), T17 PR19D (io), T18 PR18C (io), T19 PR17C (io), T21 PR15B (DQ1) (io), T22 PR15A (DQ1) (io), U17 PR20D (io), U18 PR20C (io), U19 PR17D (io), U20 PR16A (DQ1) (io), V19 PR19B (DQ1) (io), V21 PR17B (io), V22 PR16B (DQ1) (io), W20 PR19A (DQ1) (io), W22 PR17A (io), Y20 PR20B (io), Y21 PR20A (io), Y22 PR18A (DQ1) (io)
part C pins: AA3 PB3B (io), AA4 PB7A (io), AA7 PB10A (io), AA8 PB12D (io), AA9 PB13A, PCLKT2_0/INTEST_OVER (io), AA10 PB15A (io), AA11 PB15C (io), AA12 PB18B (io), AA13 PB18D (io), AA14 PB20B, PCLKC2_1 (io), AA16 PB23B (io), AA20 PB30A, SN/MD5/SCAN_SHFT_ENB/TDIB (io), AB2 PB6C (io), AB3 PB6D (io), AB6 PB9A, MCLK/CCLK (io), AB7 PB10B (io), AB10 PB15B (io), AB11 PB15D (io), AB12 PB18A (io), AB13 PB18C (io), AB15 PB21B (io), AB16 PB23A (io), AB17 PB24B (io), AB18 PB26D (io), AB20 PB27A (io), AB21 PB27B (io), T8 PB4D (io), T10 PB10D (io), T11 PB13D (io), T12 PB20C (io), T15 PB29C (io), T16 PB30D (io), U6 PB3C (io), U7 PB4C (io), U8 PB6A (io), U10 PB10C (io), U11 PB13C (io), U12 PB20D (io), U15 PB27D (io), U16 PB29D (io), V6 PB3D (io), V7 PB6B (io), V8 PB9C (io), V11 PB12A (io), V12 PB21D (io), V13 PB23D (io), V14 PB24D (io), V16 PB27C (io), V17 PB30C (io), W5 PB4A, CSSPIN/MD4/TDOB (io), W6 PB7C (io), W7 PB7D (io), W8 PB9D (io), W11 PB12B (io), W12 PB21C (io), W14 PB24C (io), W16 PB26A (io), W17 PB26B (io), W18 PB29B (io), W19 PB30B, SI/SISPI/IO0/MD0/TDOR (io), Y3 PB3A (io), Y4 PB4B (io), Y5 PB7B (io), Y7 PB9B, SO/SPISO/IO1/MD1/TDIL (io), Y8 PB12C (io), Y10 PB13B, PCLKC2_0 (io), Y12 PB23C (io), Y13 PB20A, PCLKT2_1/INTEST_OVER (io), Y14 PB21A (io), Y16 PB24A (io), Y17 PB26C (io), Y19 PB29A (io)
part D pins: AA1 PL18B (io), M3 PL15C (io), N5 PL15D (io), N6 PL16D (io), N7 PL16C (io), P6 PL17D (io), P7 PL17C (io), R2 PL15A (io), R3 PL15B (io), R6 PL18D (io), R7 PL19C (io), T5 PL18C (io), T6 PL19D (io), T7 PL20D (io), U3 PL16A (io), U5 PL20C (io), V1 PL16B (io), V3 PL17A, PCLKT3_0 (io), V4 PL19B (io), W2 PL17B, PCLKC3_0 (io), W3 PL19A (io), W4 PL20B (io), Y1 PL18A (io), Y2 PL20A (io)
part E pins: H1 PL9A (io), J2 PL10A (io), J3 PL9B (io), K1 PL10D, PCLKC4_0 (io), K2 PL10C, PCLKT4_0 (io), K3 PL10B (io), L4 PL9D (io), L5 PL9C (io), M1 PL13C (io), M2 PL13D (io), M6 PL14D (io), M7 PL14C (io), N1 PL13A (io), N2 PL13B (io), P3 PL14A (io), R1 PL14B (io)
part F pins: B1 PL4A, L_GPLLT_IN (io), C1 PL4B, L_GPLLC_IN (io), C2 PL2B (io), C3 PL2A (io), D1 PL5B (io), D3 PL3B, L_GPLLC_FB (io), E1 PL6A, PCLKT5_0 (io), E2 PL5A (io), E4 PL3A, L_GPLLT_FB (io), F3 PL6B, PCLKC5_0 (io), F4 PL5C (io), F5 PL2D (io), F6 PL2C (io), G1 PL7B (io), G2 PL7A (io), G4 PL5D (io), G5 PL4D (io), G6 PL3C (io), H2 PL8B (io), H3 PL8A (io), H4 PL6D (io), H5 PL6C (io), H6 PL4C (io), H7 PL3D (io), J4 PL7D (io), J5 PL7C (io), K5 PL8C (io), L3 PL8D (io)
part G pins: AA6 VCCIO2 (power), AA17 VCCIO2 (power), B6 VCCIO0 (power), B17 VCCIO0 (power), D10 VCCIO0 (power), D13 VCCIO0 (power), F2 VCCIO5 (power), F21 VCCIO1 (power), H9 VCCIO0 (power), H10 VCCIO0 (power), H11 VCCIO0 (power), H12 VCCIO0 (power), H13 VCCIO0 (power), H14 VCCIO0 (power), J8 VCCIO5 (power), J15 VCCIO1 (power), K4 VCCIO4 (power), K8 VCCIO5 (power), K10 VCC (power), K11 VCC (power), K12 VCC (power), K13 VCC (power), K15 VCCIO1 (power), K19 VCCIO1 (power), L8 VCCIO4 (power), L10 VCC (power), L13 VCC (power), L15 VCCIO1 (power), M8 VCCIO4 (power), M10 VCC (power), M13 VCC (power), M15 VCCIO1 (power), N4 VCCIO4 (power), N8 VCCIO3 (power), N10 VCC (power), N11 VCC (power), N12 VCC (power), N13 VCC (power), N15 VCCIO1 (power), N19 VCCIO1 (power), P8 VCCIO3 (power), P15 VCCIO1 (power), R9 VCCIO2 (power), R10 VCCIO2 (power), R11 VCCIO2 (power), R12 VCCIO2 (power), R13 VCCIO2 (power), R14 VCCIO2 (power), U2 VCCIO3 (power), U21 VCCIO1 (power), W10 VCCIO2 (power), W13 VCCIO2 (power)
part H pins: A1 GND (power), A9 GND (power), A14 GND (power), A22 GND (power), AA2 GND (power), AA21 GND (power), AB1 GND (power), AB9 GND (power), AB14 GND (power), AB22 GND (power), B2 GND (power), B21 GND (power), E5 GND (power), E18 GND (power), H8 GND (power), H15 GND (power), J1 GND (power), J9 GND (power), J10 GND (power), J11 GND (power), J12 GND (power), J13 GND (power), J14 GND (power), J22 GND (power), K9 GND (power), K14 GND (power), L9 GND (power), L11 GND (power), L12 GND (power), L14 GND (power), M9 GND (power), M11 GND (power), M12 GND (power), M14 GND (power), N9 GND (power), N14 GND (power), P1 GND (power), P9 GND (power), P10 GND (power), P11 GND (power), P12 GND (power), P13 GND (power), P14 GND (power), P22 GND (power), R8 GND (power), R15 GND (power), V5 GND (power), V18 GND (power)
part I pins: A4 NC, A15 NC, A18 NC, A19 NC, AA5 NC, AA15 NC, AA18 NC, AA19 NC, AB4 NC, AB5 NC, AB8 NC, AB19 NC, B4 NC, B5 NC, B8 NC, B18 NC, C5 NC, C8 NC, C12 NC, C14 NC, C17 NC, D2 NC, D8 NC, D14 NC, D22 NC, E3 NC, E8 NC, E13 NC, E14 NC, E21 NC, F1 NC, F7 NC, F9 NC, F10 NC, F14 NC, F19 NC, F22 NC, G3 NC, G9 NC, G10 NC, G14 NC, G19 NC, G20 NC, H18 NC, H19 NC, H22 NC, J6 NC, J7 NC, J20 NC, J21 NC, K6 NC, K7 NC, K18 NC, K20 NC, L1 NC, L2 NC, L6 NC, L7 NC, L18 NC, L19 NC, L20 NC, M4 NC, M5 NC, M16 NC, M17 NC, M21 NC, M22 NC, N3 NC, N16 NC, N17 NC, P2 NC, P4 NC, P5 NC, P16 NC, P17 NC, R4 NC, R5 NC, T1 NC, T2 NC, T3 NC, T4 NC, T9 NC, T13 NC, T14 NC, T20 NC, U1 NC, U4 NC, U9 NC, U13 NC, U14 NC, U22 NC, V2 NC, V9 NC, V10 NC, V15 NC, V20 NC, W1 NC, W9 NC, W15 NC, W21 NC, Y6 NC, Y9 NC, Y11 NC, Y15 NC, Y18 NC
part A text: BANK 0
part B text: BANK 1
part C text: BANK 2
part D text: BANK 3
part E text: BANK 4
part F text: BANK 5

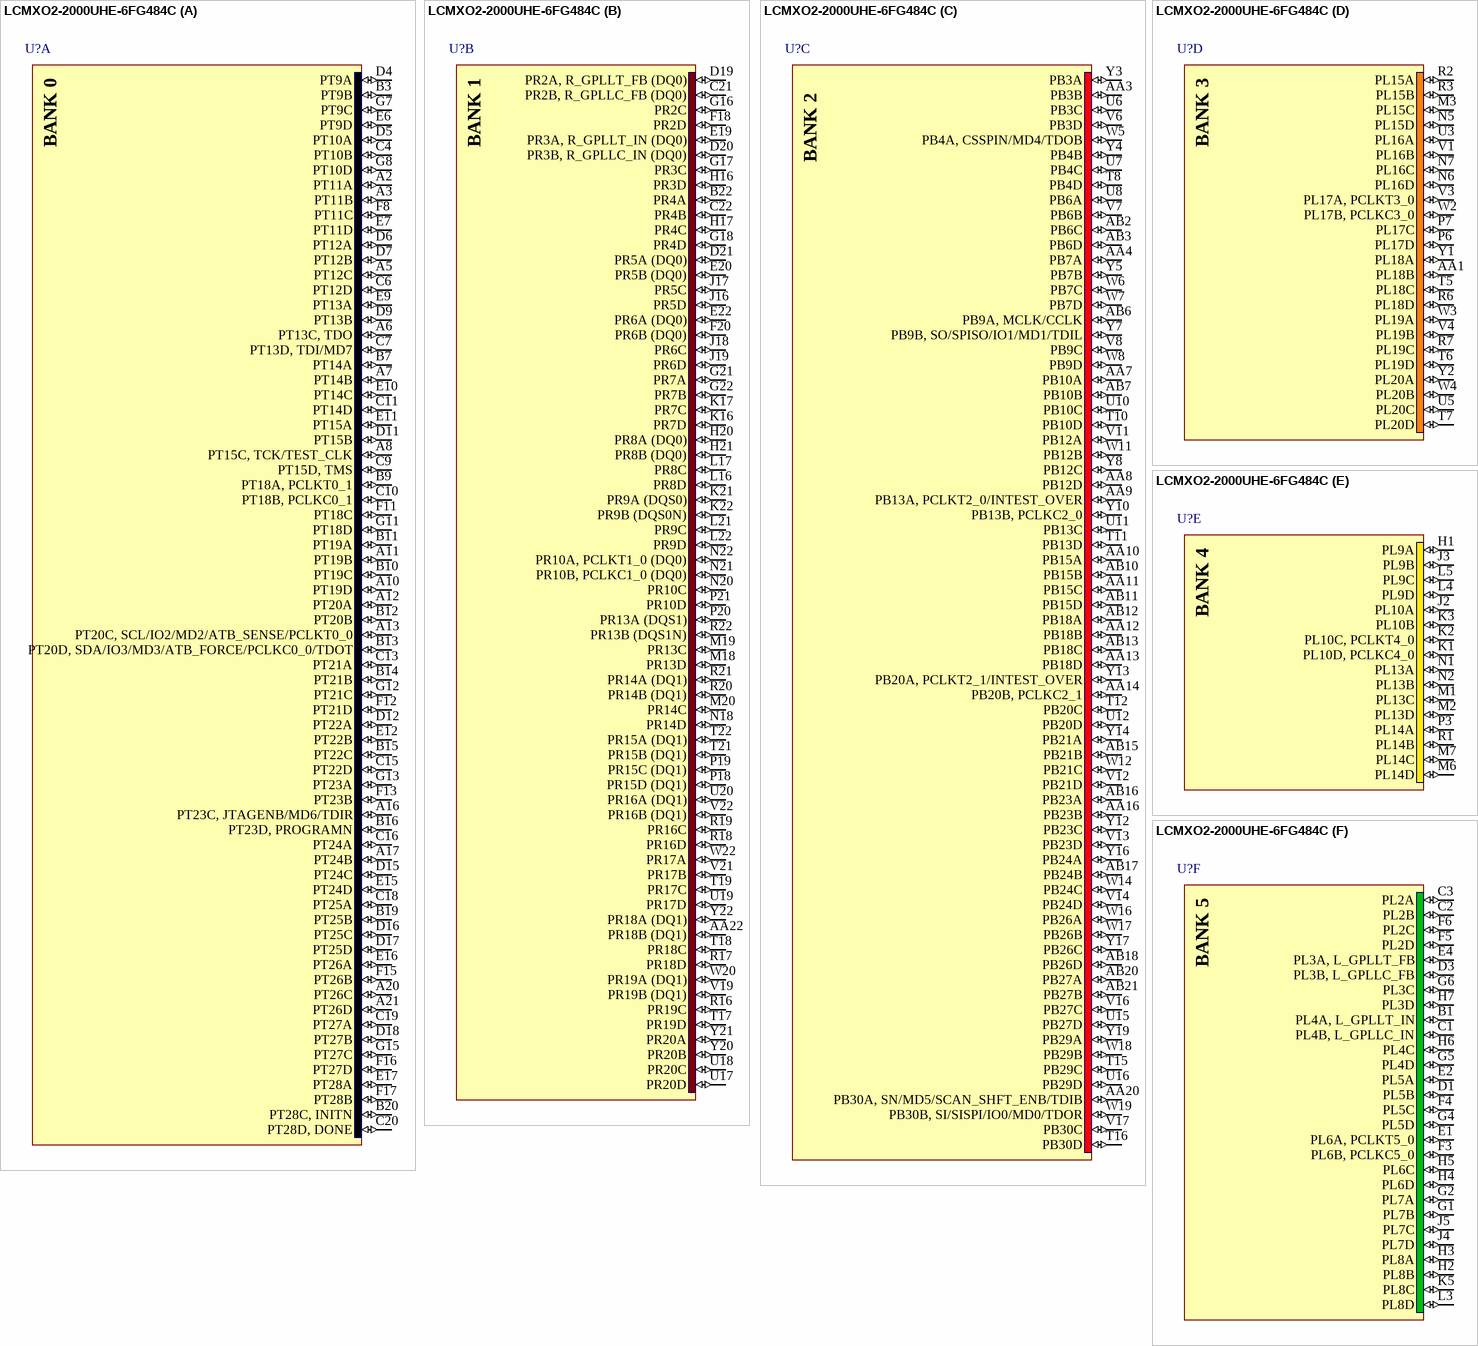
[diagram p114: symbol LCMXO2-2000UHE-6FG484C]

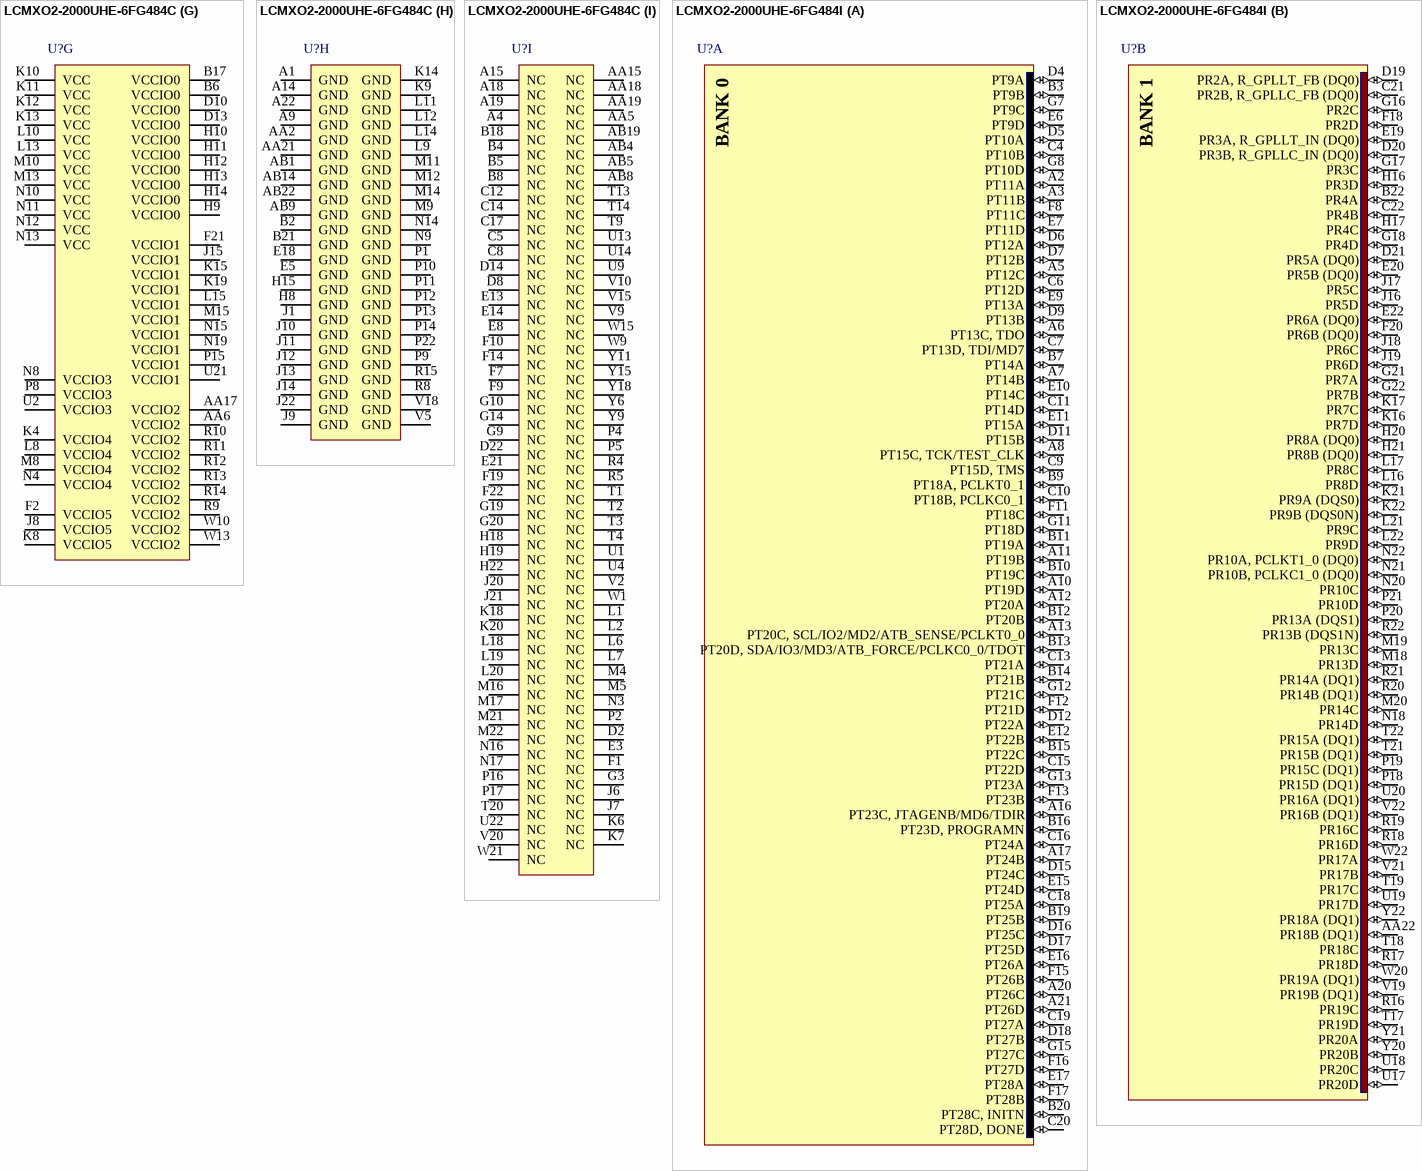
[diagram p115: symbols LCMXO2-2000UHE-6FG484C to LCMXO2-2000UHE-6FG484I]

## LCMXO2-2000UHE-6FG484C
designator U?
MachXO2 High Performance CPLD with 2112 LUTs, Voltage Regulator, 2.5V/3.3V, 484-pin fpBGA, Speed Grade-6, Commercial Grade, Halogen Free (RoHS); DatasheetVersion: ver01.5, Aug-2011; PackageVersion: ver02.8, Jul-2011; PackageReference: fpBGA484; PackageDescription: 484-Ball Fine Pitch Ball Grid Array (fpBGA484); Code_IPC: BGA100P22X22-484; ComponentLink1Description: Manufacturer URL; ComponentLink1URL: http://www.latticesemi.com/; ComponentLink2Description: Datasheet; ComponentLink2URL: http://www.latticesemi.com/documents/DS1035.pdf; ComponentLink3Description: Package Specification; ComponentLink3URL: http://www.latticesemi.com/lit/docs/package/pkg.pdf
footprint fpBGA484 (BGA, 484-Leads, Body 23x23mm, Pitch 1mm)
part A pins: A2 PT11A (io), A3 PT11B (io), A5 PT12C (io), A6 PT13C, TDO (io), A7 PT14B (io), A8 PT15C, TCK/TEST_CLK (io), A10 PT19D (io), A11 PT19B (io), A12 PT20A (io), A13 PT20C, SCL/IO2/MD2/ATB_SENSE/PCLKT0_0 (io), A16 PT23C, JTAGENB/MD6/TDIR (io), A17 PT24B (io), A20 PT26C (io), A21 PT26D (io), B3 PT9B (io), B7 PT14A (io), B9 PT18A, PCLKT0_1 (io), B10 PT19C (io), B11 PT19A (io), B12 PT20B (io), B13 PT20D, SDA/IO3/MD3/ATB_FORCE/PCLKC0_0/TDOT (io), B14 PT21B (io), B15 PT22C (io), B16 PT23D, PROGRAMN (io), B19 PT25B (io), B20 PT28C, INITN (io), C4 PT10B (io), C6 PT12D (io), C7 PT13D, TDI/MD7 (io), C9 PT15D, TMS (io), C10 PT18B, PCLKC0_1 (io), C11 PT14D (io), C13 PT21A (io), C15 PT22D (io), C16 PT24A (io), C18 PT25A (io), C19 PT27A (io), C20 PT28D, DONE (io), D4 PT9A (io), D5 PT10A (io), D6 PT12A (io), D7 PT12B (io), D9 PT13B (io), D11 PT15B (io), D12 PT22A (io), D15 PT24C (io), D16 PT25C (io), D17 PT25D (io), D18 PT27B (io), E6 PT9D (io), E7 PT11D (io), E9 PT13A (io), E10 PT14C (io), E11 PT15A (io), E12 PT22B (io), E15 PT24D (io), E16 PT26A (io), E17 PT28A (io), F8 PT11C (io), F11 PT18C (io), F12 PT21D (io), F13 PT23B (io), F15 PT26B (io), F16 PT27D (io), F17 PT28B (io), G7 PT9C (io), G8 PT10D (io), G11 PT18D (io), G12 PT21C (io), G13 PT23A (io), G15 PT27C (io)
part B pins: AA22 PR18B (DQ1) (io), B22 PR4A (io), C21 PR2B, R_GPLLC_FB (DQ0) (io), C22 PR4B (io), D19 PR2A, R_GPLLT_FB (DQ0) (io), D20 PR3B, R_GPLLC_IN (DQ0) (io), D21 PR5A (DQ0) (io), E19 PR3A, R_GPLLT_IN (DQ0) (io), E20 PR5B (DQ0) (io), E22 PR6A (DQ0) (io), F18 PR2D (io), F20 PR6B (DQ0) (io), G16 PR2C (io), G17 PR3C (io), G18 PR4D (io), G21 PR7A (io), G22 PR7B (io), H16 PR3D (io), H17 PR4C (io), H20 PR8A (DQ0) (io), H21 PR8B (DQ0) (io), J16 PR5D (io), J17 PR5C (io), J18 PR6C (io), J19 PR6D (io), K16 PR7D (io), K17 PR7C (io), K21 PR9A (DQS0) (io), K22 PR9B (DQS0N) (io), L16 PR8D (io), L17 PR8C (io), L21 PR9C (io), L22 PR9D (io), M18 PR13D (io), M19 PR13C (io), M20 PR14C (io), N18 PR14D (io), N20 PR10C (io), N21 PR10B, PCLKC1_0 (DQ0) (io), N22 PR10A, PCLKT1_0 (DQ0) (io), P18 PR15D (DQ1) (io), P19 PR15C (DQ1) (io), P20 PR13A (DQS1) (io), P21 PR10D (io), R16 PR19C (io), R17 PR18D (io), R18 PR16D (io), R19 PR16C (io), R20 PR14B (DQ1) (io), R21 PR14A (DQ1) (io), R22 PR13B (DQS1N) (io), T17 PR19D (io), T18 PR18C (io), T19 PR17C (io), T21 PR15B (DQ1) (io), T22 PR15A (DQ1) (io), U17 PR20D (io), U18 PR20C (io), U19 PR17D (io), U20 PR16A (DQ1) (io), V19 PR19B (DQ1) (io), V21 PR17B (io), V22 PR16B (DQ1) (io), W20 PR19A (DQ1) (io), W22 PR17A (io), Y20 PR20B (io), Y21 PR20A (io), Y22 PR18A (DQ1) (io)
part C pins: AA3 PB3B (io), AA4 PB7A (io), AA7 PB10A (io), AA8 PB12D (io), AA9 PB13A, PCLKT2_0/INTEST_OVER (io), AA10 PB15A (io), AA11 PB15C (io), AA12 PB18B (io), AA13 PB18D (io), AA14 PB20B, PCLKC2_1 (io), AA16 PB23B (io), AA20 PB30A, SN/MD5/SCAN_SHFT_ENB/TDIB (io), AB2 PB6C (io), AB3 PB6D (io), AB6 PB9A, MCLK/CCLK (io), AB7 PB10B (io), AB10 PB15B (io), AB11 PB15D (io), AB12 PB18A (io), AB13 PB18C (io), AB15 PB21B (io), AB16 PB23A (io), AB17 PB24B (io), AB18 PB26D (io), AB20 PB27A (io), AB21 PB27B (io), T8 PB4D (io), T10 PB10D (io), T11 PB13D (io), T12 PB20C (io), T15 PB29C (io), T16 PB30D (io), U6 PB3C (io), U7 PB4C (io), U8 PB6A (io), U10 PB10C (io), U11 PB13C (io), U12 PB20D (io), U15 PB27D (io), U16 PB29D (io), V6 PB3D (io), V7 PB6B (io), V8 PB9C (io), V11 PB12A (io), V12 PB21D (io), V13 PB23D (io), V14 PB24D (io), V16 PB27C (io), V17 PB30C (io), W5 PB4A, CSSPIN/MD4/TDOB (io), W6 PB7C (io), W7 PB7D (io), W8 PB9D (io), W11 PB12B (io), W12 PB21C (io), W14 PB24C (io), W16 PB26A (io), W17 PB26B (io), W18 PB29B (io), W19 PB30B, SI/SISPI/IO0/MD0/TDOR (io), Y3 PB3A (io), Y4 PB4B (io), Y5 PB7B (io), Y7 PB9B, SO/SPISO/IO1/MD1/TDIL (io), Y8 PB12C (io), Y10 PB13B, PCLKC2_0 (io), Y12 PB23C (io), Y13 PB20A, PCLKT2_1/INTEST_OVER (io), Y14 PB21A (io), Y16 PB24A (io), Y17 PB26C (io), Y19 PB29A (io)
part D pins: AA1 PL18B (io), M3 PL15C (io), N5 PL15D (io), N6 PL16D (io), N7 PL16C (io), P6 PL17D (io), P7 PL17C (io), R2 PL15A (io), R3 PL15B (io), R6 PL18D (io), R7 PL19C (io), T5 PL18C (io), T6 PL19D (io), T7 PL20D (io), U3 PL16A (io), U5 PL20C (io), V1 PL16B (io), V3 PL17A, PCLKT3_0 (io), V4 PL19B (io), W2 PL17B, PCLKC3_0 (io), W3 PL19A (io), W4 PL20B (io), Y1 PL18A (io), Y2 PL20A (io)
part E pins: H1 PL9A (io), J2 PL10A (io), J3 PL9B (io), K1 PL10D, PCLKC4_0 (io), K2 PL10C, PCLKT4_0 (io), K3 PL10B (io), L4 PL9D (io), L5 PL9C (io), M1 PL13C (io), M2 PL13D (io), M6 PL14D (io), M7 PL14C (io), N1 PL13A (io), N2 PL13B (io), P3 PL14A (io), R1 PL14B (io)
part F pins: B1 PL4A, L_GPLLT_IN (io), C1 PL4B, L_GPLLC_IN (io), C2 PL2B (io), C3 PL2A (io), D1 PL5B (io), D3 PL3B, L_GPLLC_FB (io), E1 PL6A, PCLKT5_0 (io), E2 PL5A (io), E4 PL3A, L_GPLLT_FB (io), F3 PL6B, PCLKC5_0 (io), F4 PL5C (io), F5 PL2D (io), F6 PL2C (io), G1 PL7B (io), G2 PL7A (io), G4 PL5D (io), G5 PL4D (io), G6 PL3C (io), H2 PL8B (io), H3 PL8A (io), H4 PL6D (io), H5 PL6C (io), H6 PL4C (io), H7 PL3D (io), J4 PL7D (io), J5 PL7C (io), K5 PL8C (io), L3 PL8D (io)
part G pins: AA6 VCCIO2 (power), AA17 VCCIO2 (power), B6 VCCIO0 (power), B17 VCCIO0 (power), D10 VCCIO0 (power), D13 VCCIO0 (power), F2 VCCIO5 (power), F21 VCCIO1 (power), H9 VCCIO0 (power), H10 VCCIO0 (power), H11 VCCIO0 (power), H12 VCCIO0 (power), H13 VCCIO0 (power), H14 VCCIO0 (power), J8 VCCIO5 (power), J15 VCCIO1 (power), K4 VCCIO4 (power), K8 VCCIO5 (power), K10 VCC (power), K11 VCC (power), K12 VCC (power), K13 VCC (power), K15 VCCIO1 (power), K19 VCCIO1 (power), L8 VCCIO4 (power), L10 VCC (power), L13 VCC (power), L15 VCCIO1 (power), M8 VCCIO4 (power), M10 VCC (power), M13 VCC (power), M15 VCCIO1 (power), N4 VCCIO4 (power), N8 VCCIO3 (power), N10 VCC (power), N11 VCC (power), N12 VCC (power), N13 VCC (power), N15 VCCIO1 (power), N19 VCCIO1 (power), P8 VCCIO3 (power), P15 VCCIO1 (power), R9 VCCIO2 (power), R10 VCCIO2 (power), R11 VCCIO2 (power), R12 VCCIO2 (power), R13 VCCIO2 (power), R14 VCCIO2 (power), U2 VCCIO3 (power), U21 VCCIO1 (power), W10 VCCIO2 (power), W13 VCCIO2 (power)
part H pins: A1 GND (power), A9 GND (power), A14 GND (power), A22 GND (power), AA2 GND (power), AA21 GND (power), AB1 GND (power), AB9 GND (power), AB14 GND (power), AB22 GND (power), B2 GND (power), B21 GND (power), E5 GND (power), E18 GND (power), H8 GND (power), H15 GND (power), J1 GND (power), J9 GND (power), J10 GND (power), J11 GND (power), J12 GND (power), J13 GND (power), J14 GND (power), J22 GND (power), K9 GND (power), K14 GND (power), L9 GND (power), L11 GND (power), L12 GND (power), L14 GND (power), M9 GND (power), M11 GND (power), M12 GND (power), M14 GND (power), N9 GND (power), N14 GND (power), P1 GND (power), P9 GND (power), P10 GND (power), P11 GND (power), P12 GND (power), P13 GND (power), P14 GND (power), P22 GND (power), R8 GND (power), R15 GND (power), V5 GND (power), V18 GND (power)
part I pins: A4 NC, A15 NC, A18 NC, A19 NC, AA5 NC, AA15 NC, AA18 NC, AA19 NC, AB4 NC, AB5 NC, AB8 NC, AB19 NC, B4 NC, B5 NC, B8 NC, B18 NC, C5 NC, C8 NC, C12 NC, C14 NC, C17 NC, D2 NC, D8 NC, D14 NC, D22 NC, E3 NC, E8 NC, E13 NC, E14 NC, E21 NC, F1 NC, F7 NC, F9 NC, F10 NC, F14 NC, F19 NC, F22 NC, G3 NC, G9 NC, G10 NC, G14 NC, G19 NC, G20 NC, H18 NC, H19 NC, H22 NC, J6 NC, J7 NC, J20 NC, J21 NC, K6 NC, K7 NC, K18 NC, K20 NC, L1 NC, L2 NC, L6 NC, L7 NC, L18 NC, L19 NC, L20 NC, M4 NC, M5 NC, M16 NC, M17 NC, M21 NC, M22 NC, N3 NC, N16 NC, N17 NC, P2 NC, P4 NC, P5 NC, P16 NC, P17 NC, R4 NC, R5 NC, T1 NC, T2 NC, T3 NC, T4 NC, T9 NC, T13 NC, T14 NC, T20 NC, U1 NC, U4 NC, U9 NC, U13 NC, U14 NC, U22 NC, V2 NC, V9 NC, V10 NC, V15 NC, V20 NC, W1 NC, W9 NC, W15 NC, W21 NC, Y6 NC, Y9 NC, Y11 NC, Y15 NC, Y18 NC
part A text: BANK 0
part B text: BANK 1
part C text: BANK 2
part D text: BANK 3
part E text: BANK 4
part F text: BANK 5

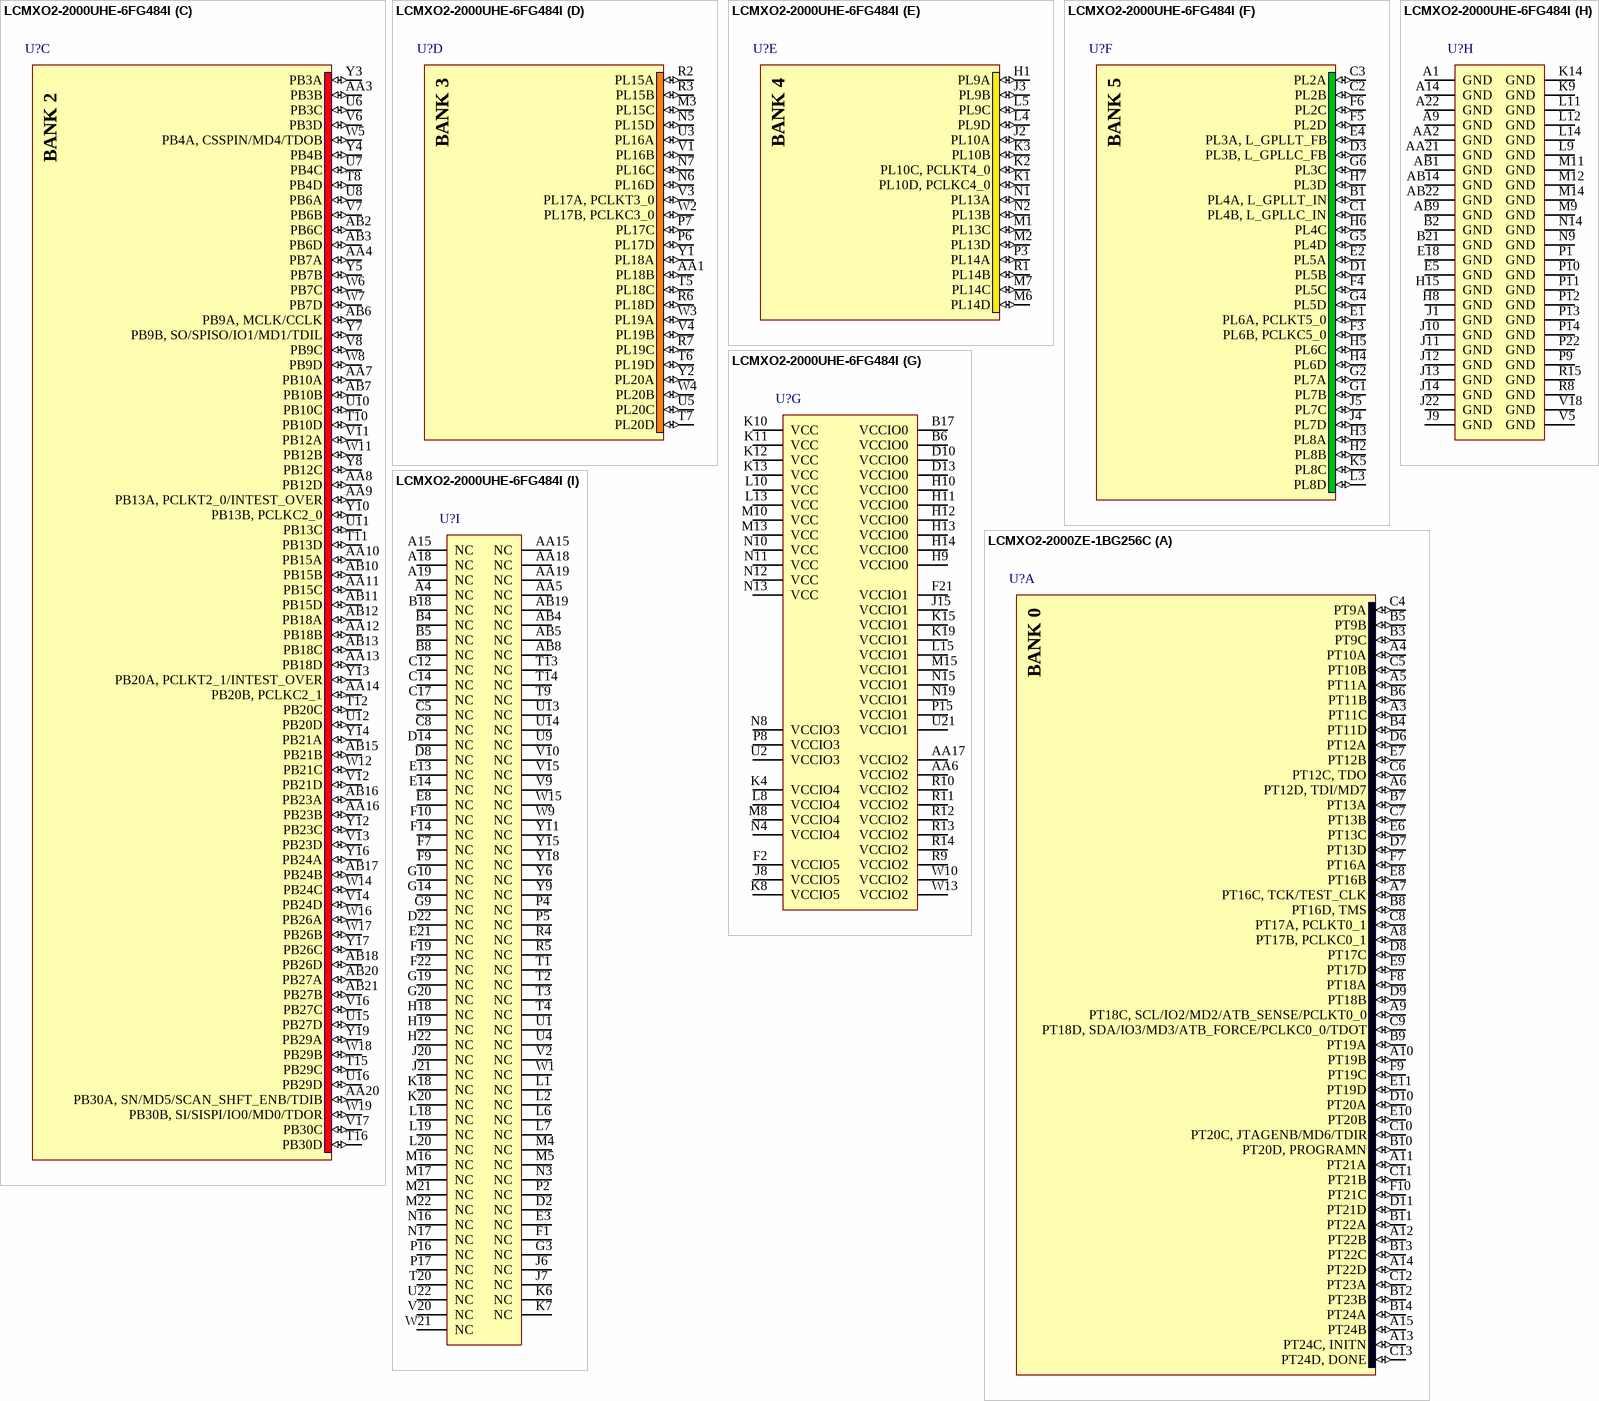
[diagram p116: symbols LCMXO2-2000UHE-6FG484I to LCMXO2-2000ZE-1BG256C]

## LCMXO2-2000UHE-6FG484I
designator U?
MachXO2 High Performance CPLD with 2112 LUTs, Voltage Regulator, 2.5V/3.3V, 484-pin fpBGA, Speed Grade-6, Industrial Grade, Halogen Free (RoHS); DatasheetVersion: ver01.5, Aug-2011; PackageVersion: ver02.8, Jul-2011; PackageReference: fpBGA484; PackageDescription: 484-Ball Fine Pitch Ball Grid Array (fpBGA484); Code_IPC: BGA100P22X22-484; ComponentLink1Description: Manufacturer URL; ComponentLink1URL: http://www.latticesemi.com/; ComponentLink2Description: Datasheet; ComponentLink2URL: http://www.latticesemi.com/documents/DS1035.pdf; ComponentLink3Description: Package Specification; ComponentLink3URL: http://www.latticesemi.com/lit/docs/package/pkg.pdf
footprint fpBGA484 (BGA, 484-Leads, Body 23x23mm, Pitch 1mm)
part A pins: A2 PT11A (io), A3 PT11B (io), A5 PT12C (io), A6 PT13C, TDO (io), A7 PT14B (io), A8 PT15C, TCK/TEST_CLK (io), A10 PT19D (io), A11 PT19B (io), A12 PT20A (io), A13 PT20C, SCL/IO2/MD2/ATB_SENSE/PCLKT0_0 (io), A16 PT23C, JTAGENB/MD6/TDIR (io), A17 PT24B (io), A20 PT26C (io), A21 PT26D (io), B3 PT9B (io), B7 PT14A (io), B9 PT18A, PCLKT0_1 (io), B10 PT19C (io), B11 PT19A (io), B12 PT20B (io), B13 PT20D, SDA/IO3/MD3/ATB_FORCE/PCLKC0_0/TDOT (io), B14 PT21B (io), B15 PT22C (io), B16 PT23D, PROGRAMN (io), B19 PT25B (io), B20 PT28C, INITN (io), C4 PT10B (io), C6 PT12D (io), C7 PT13D, TDI/MD7 (io), C9 PT15D, TMS (io), C10 PT18B, PCLKC0_1 (io), C11 PT14D (io), C13 PT21A (io), C15 PT22D (io), C16 PT24A (io), C18 PT25A (io), C19 PT27A (io), C20 PT28D, DONE (io), D4 PT9A (io), D5 PT10A (io), D6 PT12A (io), D7 PT12B (io), D9 PT13B (io), D11 PT15B (io), D12 PT22A (io), D15 PT24C (io), D16 PT25C (io), D17 PT25D (io), D18 PT27B (io), E6 PT9D (io), E7 PT11D (io), E9 PT13A (io), E10 PT14C (io), E11 PT15A (io), E12 PT22B (io), E15 PT24D (io), E16 PT26A (io), E17 PT28A (io), F8 PT11C (io), F11 PT18C (io), F12 PT21D (io), F13 PT23B (io), F15 PT26B (io), F16 PT27D (io), F17 PT28B (io), G7 PT9C (io), G8 PT10D (io), G11 PT18D (io), G12 PT21C (io), G13 PT23A (io), G15 PT27C (io)
part B pins: AA22 PR18B (DQ1) (io), B22 PR4A (io), C21 PR2B, R_GPLLC_FB (DQ0) (io), C22 PR4B (io), D19 PR2A, R_GPLLT_FB (DQ0) (io), D20 PR3B, R_GPLLC_IN (DQ0) (io), D21 PR5A (DQ0) (io), E19 PR3A, R_GPLLT_IN (DQ0) (io), E20 PR5B (DQ0) (io), E22 PR6A (DQ0) (io), F18 PR2D (io), F20 PR6B (DQ0) (io), G16 PR2C (io), G17 PR3C (io), G18 PR4D (io), G21 PR7A (io), G22 PR7B (io), H16 PR3D (io), H17 PR4C (io), H20 PR8A (DQ0) (io), H21 PR8B (DQ0) (io), J16 PR5D (io), J17 PR5C (io), J18 PR6C (io), J19 PR6D (io), K16 PR7D (io), K17 PR7C (io), K21 PR9A (DQS0) (io), K22 PR9B (DQS0N) (io), L16 PR8D (io), L17 PR8C (io), L21 PR9C (io), L22 PR9D (io), M18 PR13D (io), M19 PR13C (io), M20 PR14C (io), N18 PR14D (io), N20 PR10C (io), N21 PR10B, PCLKC1_0 (DQ0) (io), N22 PR10A, PCLKT1_0 (DQ0) (io), P18 PR15D (DQ1) (io), P19 PR15C (DQ1) (io), P20 PR13A (DQS1) (io), P21 PR10D (io), R16 PR19C (io), R17 PR18D (io), R18 PR16D (io), R19 PR16C (io), R20 PR14B (DQ1) (io), R21 PR14A (DQ1) (io), R22 PR13B (DQS1N) (io), T17 PR19D (io), T18 PR18C (io), T19 PR17C (io), T21 PR15B (DQ1) (io), T22 PR15A (DQ1) (io), U17 PR20D (io), U18 PR20C (io), U19 PR17D (io), U20 PR16A (DQ1) (io), V19 PR19B (DQ1) (io), V21 PR17B (io), V22 PR16B (DQ1) (io), W20 PR19A (DQ1) (io), W22 PR17A (io), Y20 PR20B (io), Y21 PR20A (io), Y22 PR18A (DQ1) (io)
part C pins: AA3 PB3B (io), AA4 PB7A (io), AA7 PB10A (io), AA8 PB12D (io), AA9 PB13A, PCLKT2_0/INTEST_OVER (io), AA10 PB15A (io), AA11 PB15C (io), AA12 PB18B (io), AA13 PB18D (io), AA14 PB20B, PCLKC2_1 (io), AA16 PB23B (io), AA20 PB30A, SN/MD5/SCAN_SHFT_ENB/TDIB (io), AB2 PB6C (io), AB3 PB6D (io), AB6 PB9A, MCLK/CCLK (io), AB7 PB10B (io), AB10 PB15B (io), AB11 PB15D (io), AB12 PB18A (io), AB13 PB18C (io), AB15 PB21B (io), AB16 PB23A (io), AB17 PB24B (io), AB18 PB26D (io), AB20 PB27A (io), AB21 PB27B (io), T8 PB4D (io), T10 PB10D (io), T11 PB13D (io), T12 PB20C (io), T15 PB29C (io), T16 PB30D (io), U6 PB3C (io), U7 PB4C (io), U8 PB6A (io), U10 PB10C (io), U11 PB13C (io), U12 PB20D (io), U15 PB27D (io), U16 PB29D (io), V6 PB3D (io), V7 PB6B (io), V8 PB9C (io), V11 PB12A (io), V12 PB21D (io), V13 PB23D (io), V14 PB24D (io), V16 PB27C (io), V17 PB30C (io), W5 PB4A, CSSPIN/MD4/TDOB (io), W6 PB7C (io), W7 PB7D (io), W8 PB9D (io), W11 PB12B (io), W12 PB21C (io), W14 PB24C (io), W16 PB26A (io), W17 PB26B (io), W18 PB29B (io), W19 PB30B, SI/SISPI/IO0/MD0/TDOR (io), Y3 PB3A (io), Y4 PB4B (io), Y5 PB7B (io), Y7 PB9B, SO/SPISO/IO1/MD1/TDIL (io), Y8 PB12C (io), Y10 PB13B, PCLKC2_0 (io), Y12 PB23C (io), Y13 PB20A, PCLKT2_1/INTEST_OVER (io), Y14 PB21A (io), Y16 PB24A (io), Y17 PB26C (io), Y19 PB29A (io)
part D pins: AA1 PL18B (io), M3 PL15C (io), N5 PL15D (io), N6 PL16D (io), N7 PL16C (io), P6 PL17D (io), P7 PL17C (io), R2 PL15A (io), R3 PL15B (io), R6 PL18D (io), R7 PL19C (io), T5 PL18C (io), T6 PL19D (io), T7 PL20D (io), U3 PL16A (io), U5 PL20C (io), V1 PL16B (io), V3 PL17A, PCLKT3_0 (io), V4 PL19B (io), W2 PL17B, PCLKC3_0 (io), W3 PL19A (io), W4 PL20B (io), Y1 PL18A (io), Y2 PL20A (io)
part E pins: H1 PL9A (io), J2 PL10A (io), J3 PL9B (io), K1 PL10D, PCLKC4_0 (io), K2 PL10C, PCLKT4_0 (io), K3 PL10B (io), L4 PL9D (io), L5 PL9C (io), M1 PL13C (io), M2 PL13D (io), M6 PL14D (io), M7 PL14C (io), N1 PL13A (io), N2 PL13B (io), P3 PL14A (io), R1 PL14B (io)
part F pins: B1 PL4A, L_GPLLT_IN (io), C1 PL4B, L_GPLLC_IN (io), C2 PL2B (io), C3 PL2A (io), D1 PL5B (io), D3 PL3B, L_GPLLC_FB (io), E1 PL6A, PCLKT5_0 (io), E2 PL5A (io), E4 PL3A, L_GPLLT_FB (io), F3 PL6B, PCLKC5_0 (io), F4 PL5C (io), F5 PL2D (io), F6 PL2C (io), G1 PL7B (io), G2 PL7A (io), G4 PL5D (io), G5 PL4D (io), G6 PL3C (io), H2 PL8B (io), H3 PL8A (io), H4 PL6D (io), H5 PL6C (io), H6 PL4C (io), H7 PL3D (io), J4 PL7D (io), J5 PL7C (io), K5 PL8C (io), L3 PL8D (io)
part G pins: AA6 VCCIO2 (power), AA17 VCCIO2 (power), B6 VCCIO0 (power), B17 VCCIO0 (power), D10 VCCIO0 (power), D13 VCCIO0 (power), F2 VCCIO5 (power), F21 VCCIO1 (power), H9 VCCIO0 (power), H10 VCCIO0 (power), H11 VCCIO0 (power), H12 VCCIO0 (power), H13 VCCIO0 (power), H14 VCCIO0 (power), J8 VCCIO5 (power), J15 VCCIO1 (power), K4 VCCIO4 (power), K8 VCCIO5 (power), K10 VCC (power), K11 VCC (power), K12 VCC (power), K13 VCC (power), K15 VCCIO1 (power), K19 VCCIO1 (power), L8 VCCIO4 (power), L10 VCC (power), L13 VCC (power), L15 VCCIO1 (power), M8 VCCIO4 (power), M10 VCC (power), M13 VCC (power), M15 VCCIO1 (power), N4 VCCIO4 (power), N8 VCCIO3 (power), N10 VCC (power), N11 VCC (power), N12 VCC (power), N13 VCC (power), N15 VCCIO1 (power), N19 VCCIO1 (power), P8 VCCIO3 (power), P15 VCCIO1 (power), R9 VCCIO2 (power), R10 VCCIO2 (power), R11 VCCIO2 (power), R12 VCCIO2 (power), R13 VCCIO2 (power), R14 VCCIO2 (power), U2 VCCIO3 (power), U21 VCCIO1 (power), W10 VCCIO2 (power), W13 VCCIO2 (power)
part H pins: A1 GND (power), A9 GND (power), A14 GND (power), A22 GND (power), AA2 GND (power), AA21 GND (power), AB1 GND (power), AB9 GND (power), AB14 GND (power), AB22 GND (power), B2 GND (power), B21 GND (power), E5 GND (power), E18 GND (power), H8 GND (power), H15 GND (power), J1 GND (power), J9 GND (power), J10 GND (power), J11 GND (power), J12 GND (power), J13 GND (power), J14 GND (power), J22 GND (power), K9 GND (power), K14 GND (power), L9 GND (power), L11 GND (power), L12 GND (power), L14 GND (power), M9 GND (power), M11 GND (power), M12 GND (power), M14 GND (power), N9 GND (power), N14 GND (power), P1 GND (power), P9 GND (power), P10 GND (power), P11 GND (power), P12 GND (power), P13 GND (power), P14 GND (power), P22 GND (power), R8 GND (power), R15 GND (power), V5 GND (power), V18 GND (power)
part I pins: A4 NC, A15 NC, A18 NC, A19 NC, AA5 NC, AA15 NC, AA18 NC, AA19 NC, AB4 NC, AB5 NC, AB8 NC, AB19 NC, B4 NC, B5 NC, B8 NC, B18 NC, C5 NC, C8 NC, C12 NC, C14 NC, C17 NC, D2 NC, D8 NC, D14 NC, D22 NC, E3 NC, E8 NC, E13 NC, E14 NC, E21 NC, F1 NC, F7 NC, F9 NC, F10 NC, F14 NC, F19 NC, F22 NC, G3 NC, G9 NC, G10 NC, G14 NC, G19 NC, G20 NC, H18 NC, H19 NC, H22 NC, J6 NC, J7 NC, J20 NC, J21 NC, K6 NC, K7 NC, K18 NC, K20 NC, L1 NC, L2 NC, L6 NC, L7 NC, L18 NC, L19 NC, L20 NC, M4 NC, M5 NC, M16 NC, M17 NC, M21 NC, M22 NC, N3 NC, N16 NC, N17 NC, P2 NC, P4 NC, P5 NC, P16 NC, P17 NC, R4 NC, R5 NC, T1 NC, T2 NC, T3 NC, T4 NC, T9 NC, T13 NC, T14 NC, T20 NC, U1 NC, U4 NC, U9 NC, U13 NC, U14 NC, U22 NC, V2 NC, V9 NC, V10 NC, V15 NC, V20 NC, W1 NC, W9 NC, W15 NC, W21 NC, Y6 NC, Y9 NC, Y11 NC, Y15 NC, Y18 NC
part A text: BANK 0
part B text: BANK 1
part C text: BANK 2
part D text: BANK 3
part E text: BANK 4
part F text: BANK 5

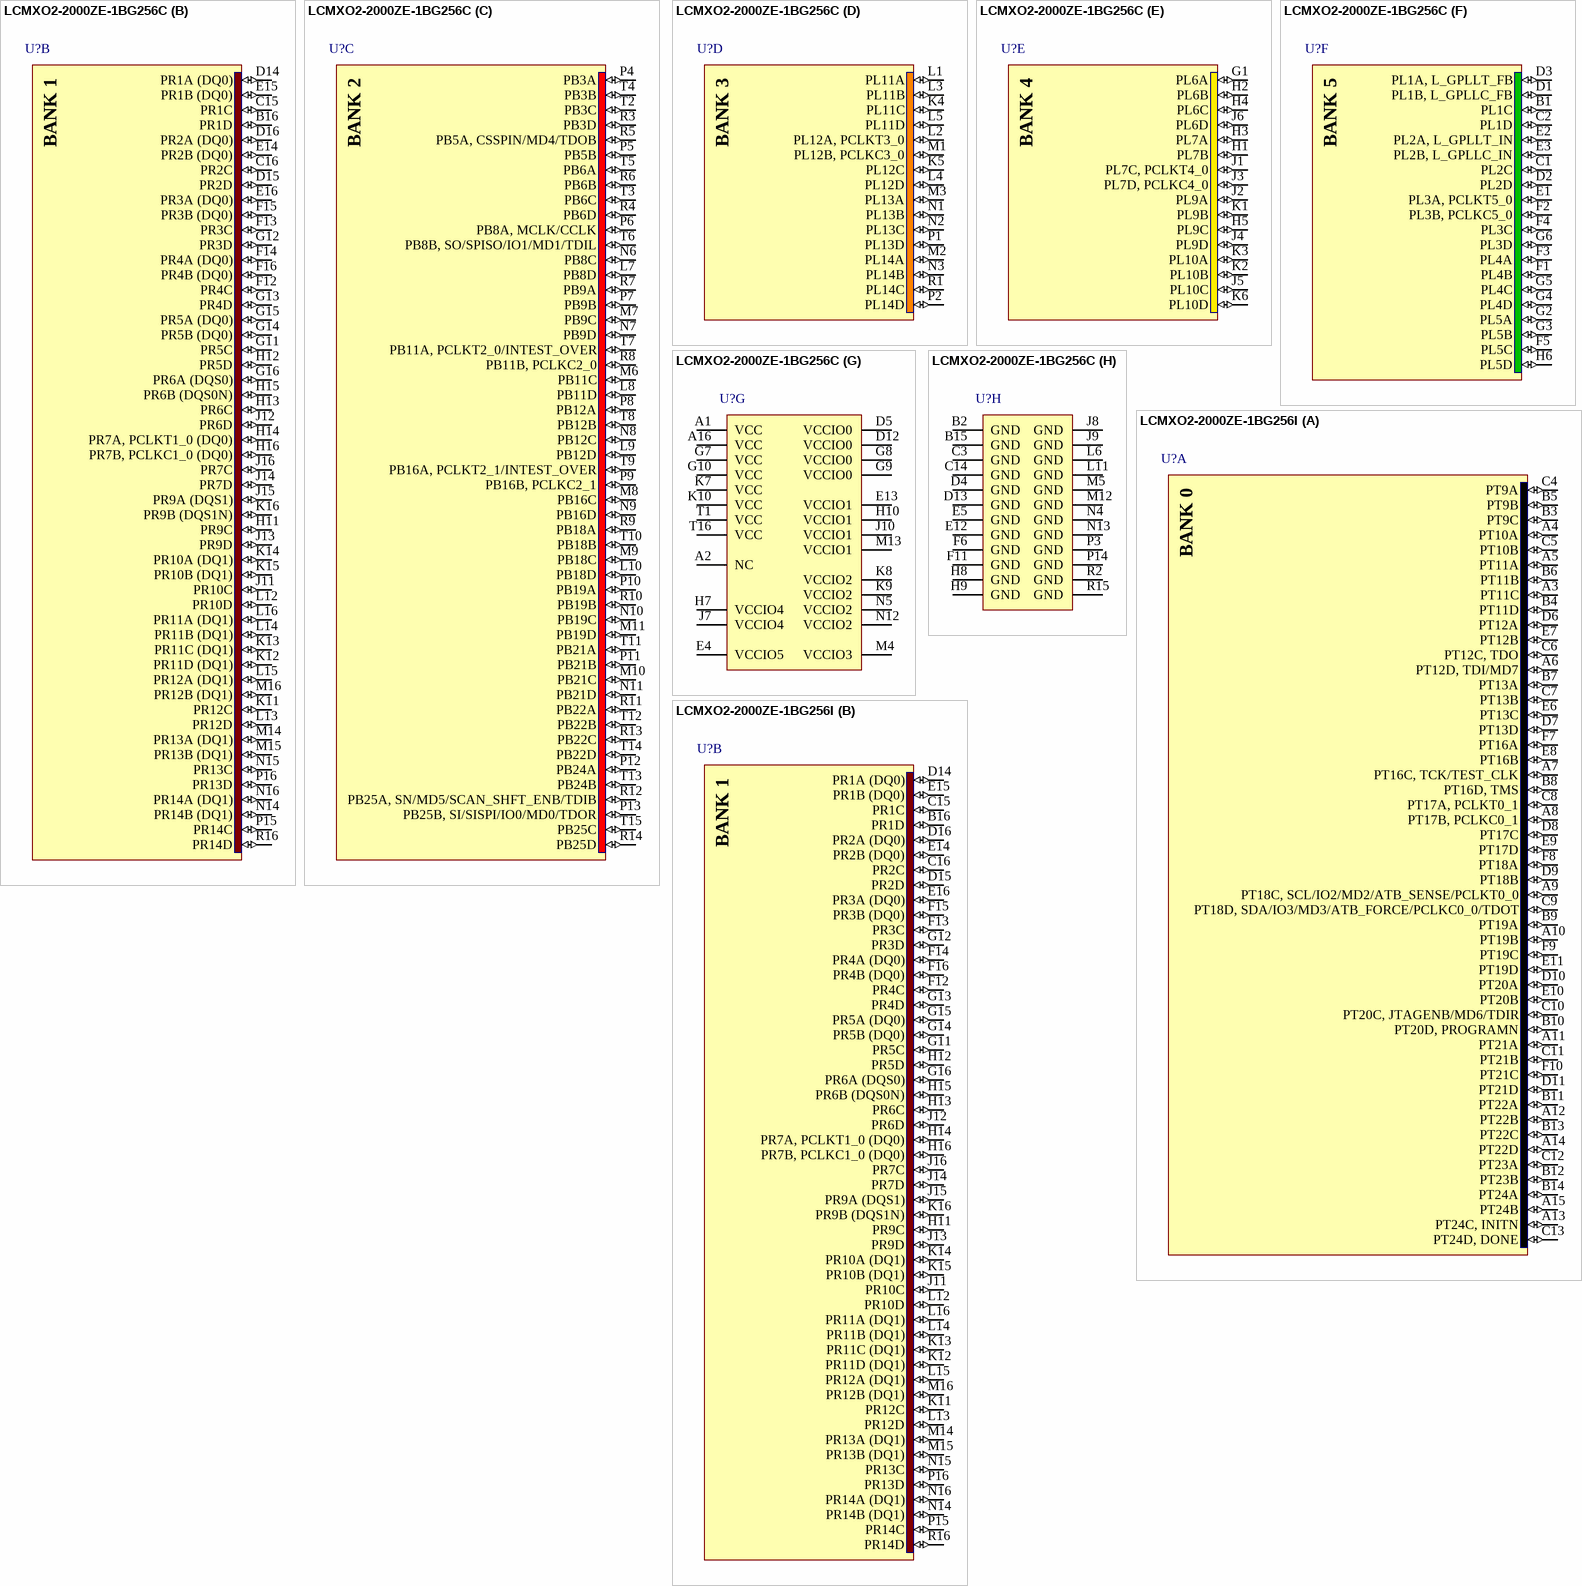
[diagram p117: symbols LCMXO2-2000ZE-1BG256C to LCMXO2-2000ZE-1BG256I]

## LCMXO2-2000ZE-1BG256C
designator U?
MachXO2 Ultra Low Power CPLD with 2112 LUTs, 1.2V, 256-pin caBGA, Speed Grade-1, Commercial Grade, Halogen Free (RoHS); DatasheetVersion: ver01.5, Aug-2011; PackageVersion: ver02.8, Jul-2011; PackageReference: caBGA256; PackageDescription: 256-Ball caBGA Package, 14 x 14 mm Body, 0.8 mm Pitch; Code_JEDEC: MO-275-JJAB-2; ComponentLink1Description: Manufacturer URL; ComponentLink1URL: http://www.latticesemi.com/; ComponentLink2Description: Datasheet; ComponentLink2URL: http://www.latticesemi.com/documents/DS1035.pdf; ComponentLink3Description: Package Specification; ComponentLink3URL: http://www.latticesemi.com/lit/docs/package/pkg.pdf
footprint caBGA256 (BGA, 256-Leads, Body 14x14mm, Pitch 0.8mm, Nominal Pad Dia. 0.4mm, Lattice Recommended)
part A pins: A3 PT11C (io), A4 PT10A (io), A5 PT11A (io), A6 PT12D, TDI/MD7 (io), A7 PT16C, TCK/TEST_CLK (io), A8 PT17B, PCLKC0_1 (io), A9 PT18C, SCL/IO2/MD2/ATB_SENSE/PCLKT0_0 (io), A10 PT19B (io), A11 PT21A (io), A12 PT22B (io), A13 PT24C, INITN (io), A14 PT22D (io), A15 PT24B (io), B3 PT9C (io), B4 PT11D (io), B5 PT9B (io), B6 PT11B (io), B7 PT13A (io), B8 PT16D, TMS (io), B9 PT19A (io), B10 PT20D, PROGRAMN (io), B11 PT22A (io), B12 PT23B (io), B13 PT22C (io), B14 PT24A (io), C4 PT9A (io), C5 PT10B (io), C6 PT12C, TDO (io), C7 PT13B (io), C8 PT17A, PCLKT0_1 (io), C9 PT18D, SDA/IO3/MD3/ATB_FORCE/PCLKC0_0/TDOT (io), C10 PT20C, JTAGENB/MD6/TDIR (io), C11 PT21B (io), C12 PT23A (io), C13 PT24D, DONE (io), D6 PT12A (io), D7 PT13D (io), D8 PT17C (io), D9 PT18B (io), D10 PT20A (io), D11 PT21D (io), E6 PT13C (io), E7 PT12B (io), E8 PT16B (io), E9 PT17D (io), E10 PT20B (io), E11 PT19D (io), F7 PT16A (io), F8 PT18A (io), F9 PT19C (io), F10 PT21C (io)
part B pins: B16 PR1D (io), C15 PR1C (io), C16 PR2C (io), D14 PR1A (DQ0) (io), D15 PR2D (io), D16 PR2A (DQ0) (io), E14 PR2B (DQ0) (io), E15 PR1B (DQ0) (io), E16 PR3A (DQ0) (io), F12 PR4C (io), F13 PR3C (io), F14 PR4A (DQ0) (io), F15 PR3B (DQ0) (io), F16 PR4B (DQ0) (io), G11 PR5C (io), G12 PR3D (io), G13 PR4D (io), G14 PR5B (DQ0) (io), G15 PR5A (DQ0) (io), G16 PR6A (DQS0) (io), H11 PR9C (io), H12 PR5D (io), H13 PR6C (io), H14 PR7A, PCLKT1_0 (DQ0) (io), H15 PR6B (DQS0N) (io), H16 PR7B, PCLKC1_0 (DQ0) (io), J11 PR10C (io), J12 PR6D (io), J13 PR9D (io), J14 PR7D (io), J15 PR9A (DQS1) (io), J16 PR7C (io), K11 PR12C (io), K12 PR11D (DQ1) (io), K13 PR11C (DQ1) (io), K14 PR10A (DQ1) (io), K15 PR10B (DQ1) (io), K16 PR9B (DQS1N) (io), L12 PR10D (io), L13 PR12D (io), L14 PR11B (DQ1) (io), L15 PR12A (DQ1) (io), L16 PR11A (DQ1) (io), M14 PR13A (DQ1) (io), M15 PR13B (DQ1) (io), M16 PR12B (DQ1) (io), N14 PR14B (DQ1) (io), N15 PR13C (io), N16 PR14A (DQ1) (io), P15 PR14C (io), P16 PR13D (io), R16 PR14D (io)
part C pins: L7 PB8D (io), L8 PB11D (io), L9 PB12D (io), L10 PB18D (io), M6 PB11C (io), M7 PB9C (io), M8 PB16C (io), M9 PB18C (io), M10 PB21C (io), M11 PB19D (io), N6 PB8C (io), N7 PB9D (io), N8 PB12C (io), N9 PB16D (io), N10 PB19C (io), N11 PB21D (io), P4 PB3A (io), P5 PB5B (io), P6 PB8A, MCLK/CCLK (io), P7 PB9B (io), P8 PB12A (io), P9 PB16B, PCLKC2_1 (io), P10 PB19A (io), P11 PB21B (io), P12 PB24A (io), P13 PB25B, SI/SISPI/IO0/MD0/TDOR (io), R3 PB3D (io), R4 PB6D (io), R5 PB5A, CSSPIN/MD4/TDOB (io), R6 PB6B (io), R7 PB9A (io), R8 PB11B, PCLKC2_0 (io), R9 PB18A (io), R10 PB19B (io), R11 PB22A (io), R12 PB25A, SN/MD5/SCAN_SHFT_ENB/TDIB (io), R13 PB22C (io), R14 PB25D (io), T2 PB3C (io), T3 PB6C (io), T4 PB3B (io), T5 PB6A (io), T6 PB8B, SO/SPISO/IO1/MD1/TDIL (io), T7 PB11A, PCLKT2_0/INTEST_OVER (io), T8 PB12B (io), T9 PB16A, PCLKT2_1/INTEST_OVER (io), T10 PB18B (io), T11 PB21A (io), T12 PB22B (io), T13 PB24B (io), T14 PB22D (io), T15 PB25C (io)
part D pins: K4 PL11C (io), K5 PL12C (io), L1 PL11A (io), L2 PL12A, PCLKT3_0 (io), L3 PL11B (io), L4 PL12D (io), L5 PL11D (io), M1 PL12B, PCLKC3_0 (io), M2 PL14A (io), M3 PL13A (io), N1 PL13B (io), N2 PL13C (io), N3 PL14B (io), P1 PL13D (io), P2 PL14D (io), R1 PL14C (io)
part E pins: G1 PL6A (io), H1 PL7B (io), H2 PL6B (io), H3 PL7A (io), H4 PL6C (io), H5 PL9C (io), J1 PL7C, PCLKT4_0 (io), J2 PL9A (io), J3 PL7D, PCLKC4_0 (io), J4 PL9D (io), J5 PL10C (io), J6 PL6D (io), K1 PL9B (io), K2 PL10B (io), K3 PL10A (io), K6 PL10D (io)
part F pins: B1 PL1C (io), C1 PL2C (io), C2 PL1D (io), D1 PL1B, L_GPLLC_FB (io), D2 PL2D (io), D3 PL1A, L_GPLLT_FB (io), E1 PL3A, PCLKT5_0 (io), E2 PL2A, L_GPLLT_IN (io), E3 PL2B, L_GPLLC_IN (io), F1 PL4B (io), F2 PL3B, PCLKC5_0 (io), F3 PL4A (io), F4 PL3C (io), F5 PL5C (io), G2 PL5A (io), G3 PL5B (io), G4 PL4D (io), G5 PL4C (io), G6 PL3D (io), H6 PL5D (io)
part G pins: A1 VCC (power), A2 NC, A16 VCC (power), D5 VCCIO0 (power), D12 VCCIO0 (power), E4 VCCIO5 (power), E13 VCCIO1 (power), G7 VCC (power), G8 VCCIO0 (power), G9 VCCIO0 (power), G10 VCC (power), H7 VCCIO4 (power), H10 VCCIO1 (power), J7 VCCIO4 (power), J10 VCCIO1 (power), K7 VCC (power), K8 VCCIO2 (power), K9 VCCIO2 (power), K10 VCC (power), M4 VCCIO3 (power), M13 VCCIO1 (power), N5 VCCIO2 (power), N12 VCCIO2 (power), T1 VCC (power), T16 VCC (power)
part H pins: B2 GND (power), B15 GND (power), C3 GND (power), C14 GND (power), D4 GND (power), D13 GND (power), E5 GND (power), E12 GND (power), F6 GND (power), F11 GND (power), H8 GND (power), H9 GND (power), J8 GND (power), J9 GND (power), L6 GND (power), L11 GND (power), M5 GND (power), M12 GND (power), N4 GND (power), N13 GND (power), P3 GND (power), P14 GND (power), R2 GND (power), R15 GND (power)
part A text: BANK 0
part B text: BANK 1
part C text: BANK 2
part D text: BANK 3
part E text: BANK 4
part F text: BANK 5

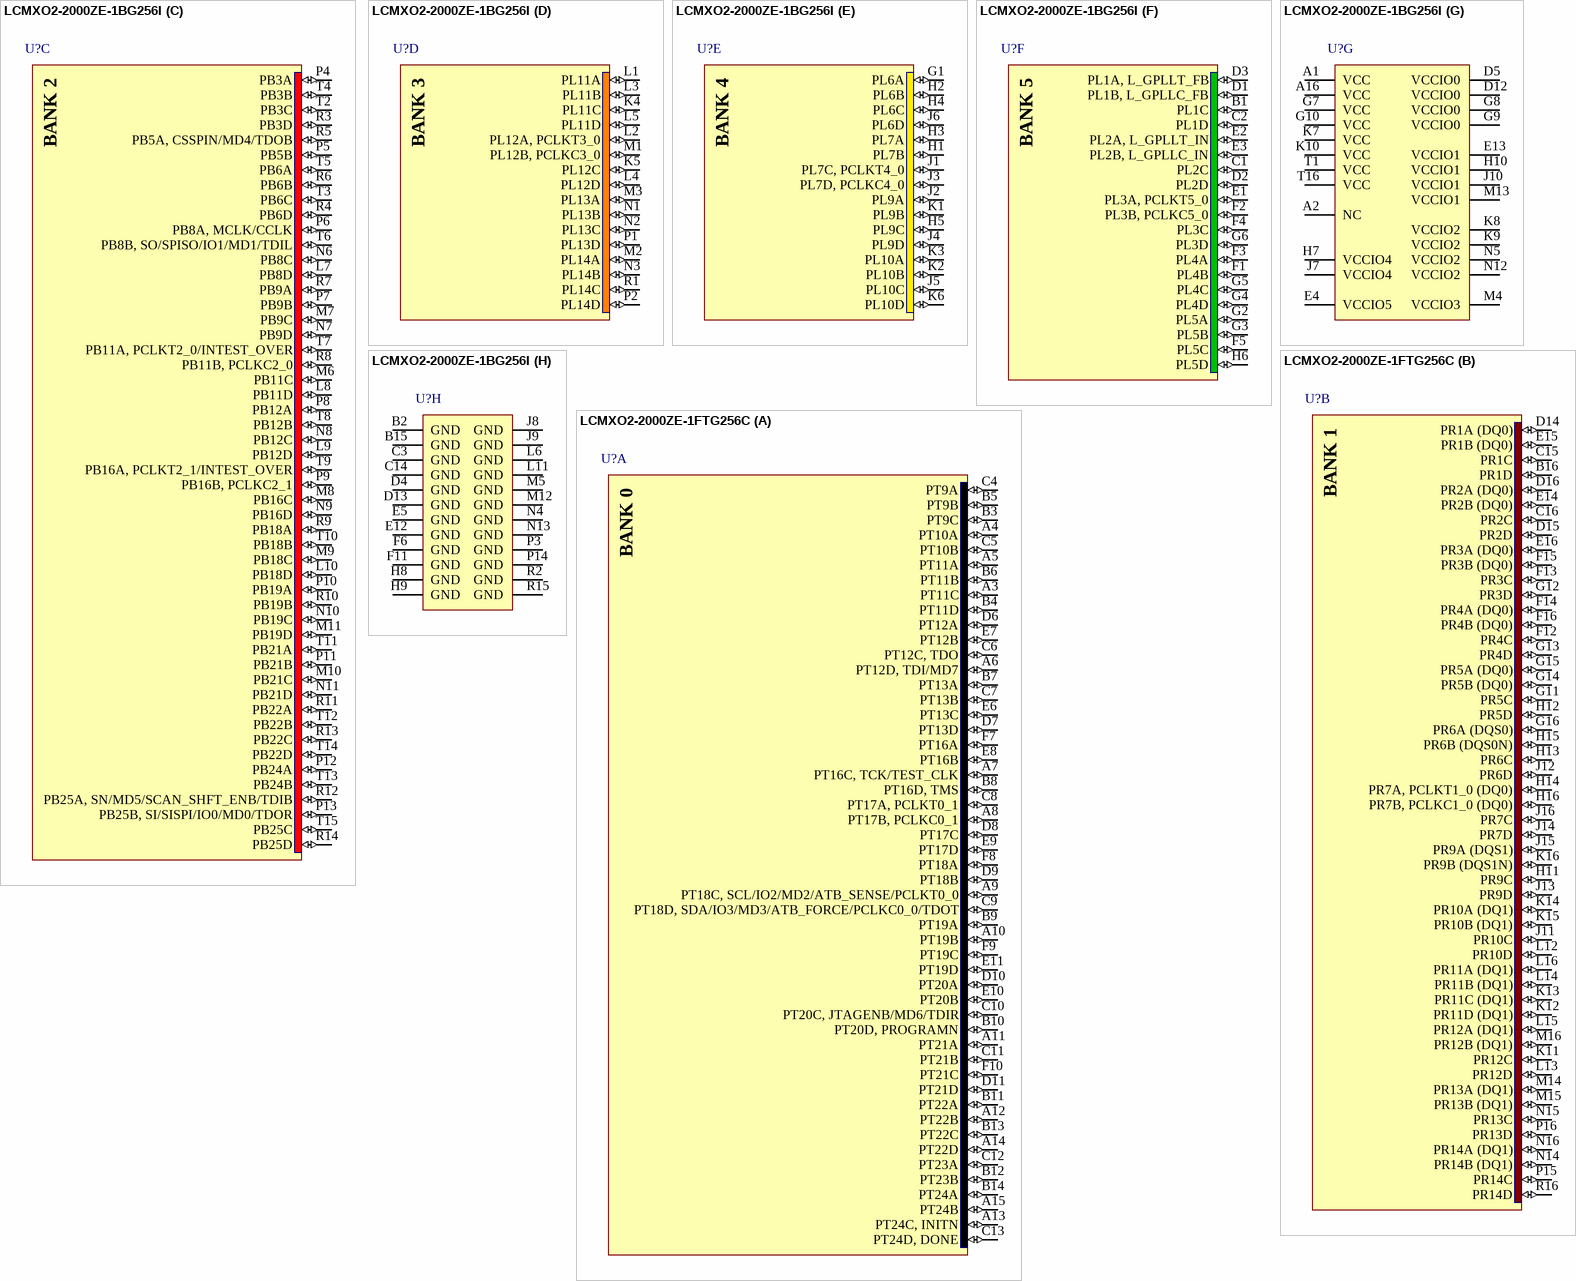
[diagram p118: symbols LCMXO2-2000ZE-1BG256I to LCMXO2-2000ZE-1FTG256C]